# Altium integrated library Freescale Semiconductor ColdFire MCU.IntLib: 117 symbols (part 6 of 7)
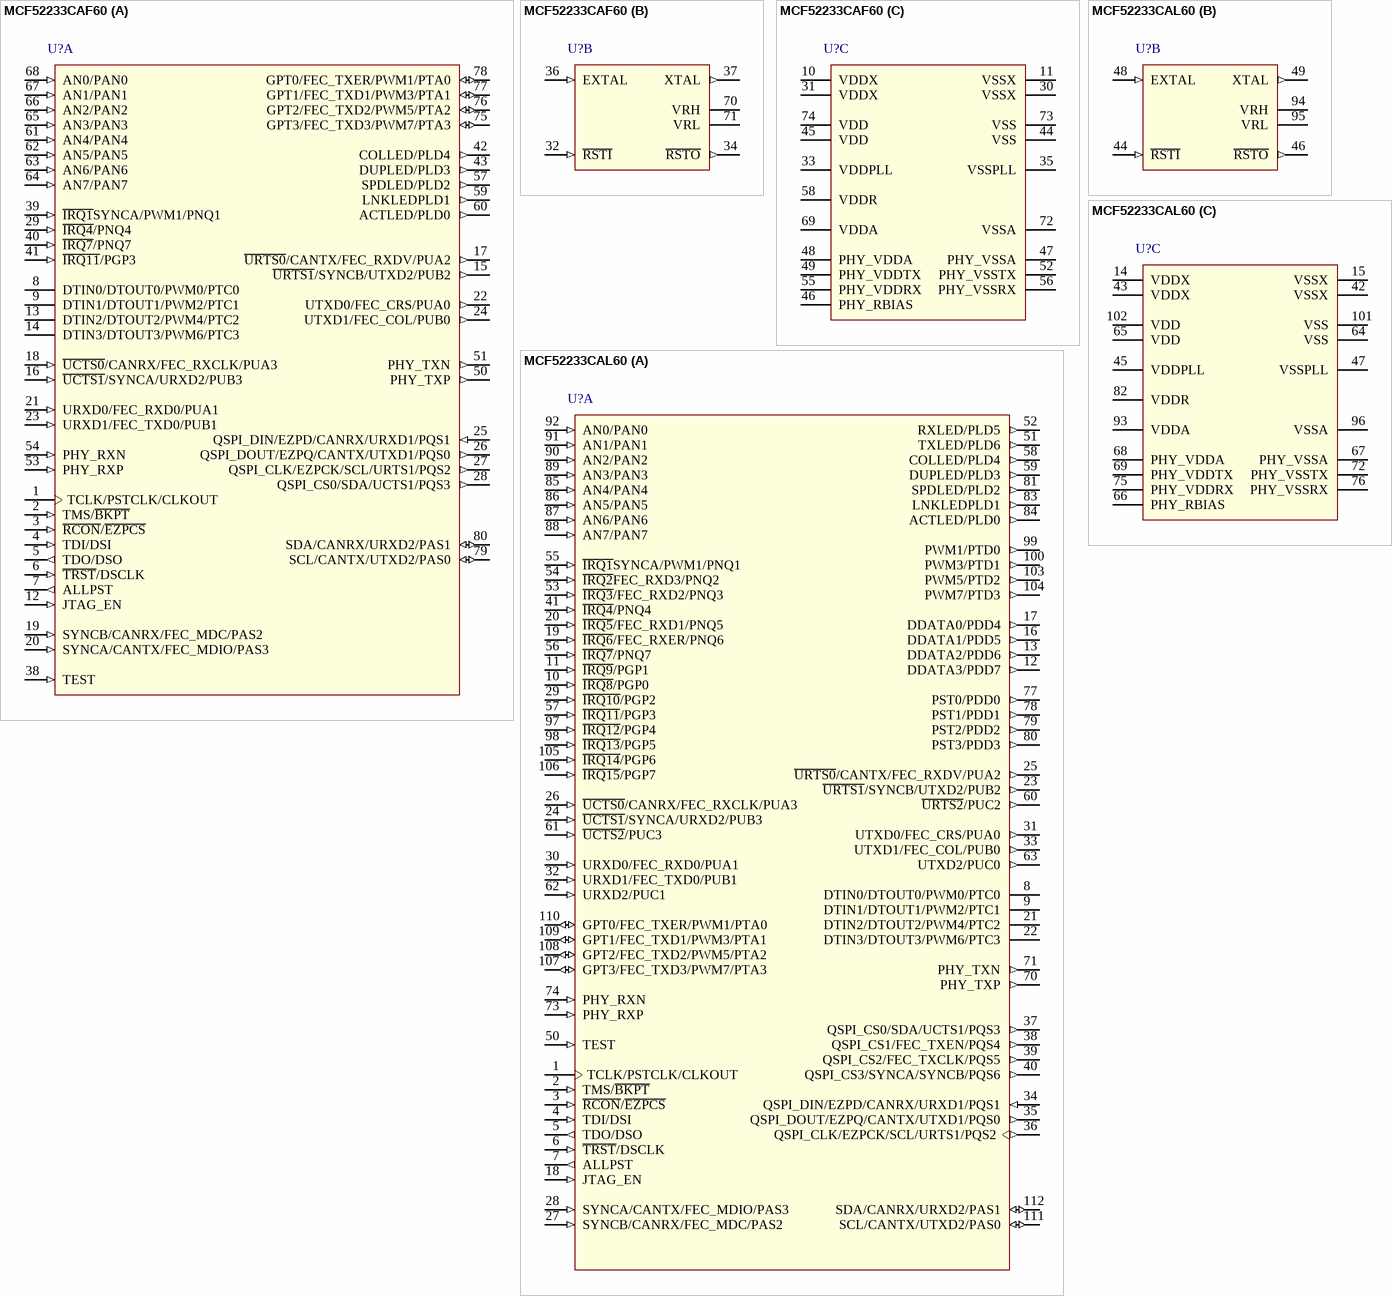
[diagram p35: symbols MCF52233CAF60 to MCF52233CAL60]

## MCF52233CAF60
designator U?
MCF52233 ColdFire V2 Microcontroller, 32-Bit, 256KB Flash, 32KB SRAM, 60MHz, -40°C to 85°C, 80-Pin LQFP; DatasheetVersion: rev10, Mar-2011; PackageVersion: 21/09/1995; PackageReference: 917A-02; PackageDescription: 80-Pin Thin Quad Flat Pack 0.65 mm Pitch; ComponentLink1Description: Manufacturer URL; ComponentLink1URL: http://www.freescale.com/; ComponentLink2Description: Datasheet; ComponentLink2URL: http://cache.freescale.com/files/32bit/doc/data_sheet/MCF52235DS.pdf?fpsp=1&WT_TYPE=Data%20Sheets&WT_VENDOR=FREESCALE&WT_FILE_FORMAT=pdf&WT_ASSET=Documentation
footprint 917A-02_N (Thin QFP, 80-Leads, Body 14 x 14mm, Pitch 0.65mm, IPC Medium Density)
footprint 917A-02_L (Thin QFP, 80-Leads, Body 14 x 14mm, Pitch 0.65mm, IPC High Density)
footprint 917A-02_M (Thin QFP, 80-Leads, Body 14 x 14mm, Pitch 0.65mm, IPC Low Density)
part A pins: 1 TCLK/PSTCLK/CLKOUT, 2 TMS/~{BKPT} (in), 3 ~{RCON}/~{EZPCS} (in), 4 TDI/DSI (in), 5 TDO/DSO (out), 6 ~{TRST}/DSCLK (in), 7 ALLPST (out), 8 DTIN0/DTOUT0/PWM0/PTC0, 9 DTIN1/DTOUT1/PWM2/PTC1, 12 JTAG_EN (in), 13 DTIN2/DTOUT2/PWM4/PTC2, 14 DTIN3/DTOUT3/PWM6/PTC3, 15 ~{URTS1}/SYNCB/UTXD2/PUB2 (out), 16 ~{UCTS1}/SYNCA/URXD2/PUB3 (in), 17 ~{URTS0}/CANTX/FEC_RXDV/PUA2 (out), 18 ~{UCTS0}/CANRX/FEC_RXCLK/PUA3 (in), 19 SYNCB/CANRX/FEC_MDC/PAS2 (in), 20 SYNCA/CANTX/FEC_MDIO/PAS3 (in), 21 URXD0/FEC_RXD0/PUA1 (in), 22 UTXD0/FEC_CRS/PUA0 (out), 23 URXD1/FEC_TXD0/PUB1 (in), 24 UTXD1/FEC_COL/PUB0 (out), 25 QSPI_DIN/EZPD/CANRX/URXD1/PQS1 (in), 26 QSPI_DOUT/EZPQ/CANTX/UTXD1/PQS0 (out), 27 QSPI_CLK/EZPCK/SCL/URTS1/PQS2 (out), 28 QSPI_CS0/SDA/UCTS1/PQS3 (out), 29 ~{IRQ4}/PNQ4 (in), 38 TEST (in), 39 ~{IRQ1}SYNCA/PWM1/PNQ1 (in), 40 ~{IRQ7}/PNQ7 (in), 41 ~{IRQ11}/PGP3 (in), 42 COLLED/PLD4 (out), 43 DUPLED/PLD3 (out), 50 PHY_TXP (out), 51 PHY_TXN (out), 53 PHY_RXP (in), 54 PHY_RXN (in), 57 SPDLED/PLD2 (out), 59 LNKLEDPLD1 (out), 60 ACTLED/PLD0 (out), 61 AN4/PAN4 (in), 62 AN5/PAN5 (in), 63 AN6/PAN6 (in), 64 AN7/PAN7 (in), 65 AN3/PAN3 (in), 66 AN2/PAN2 (in), 67 AN1/PAN1 (in), 68 AN0/PAN0 (in), 75 GPT3/FEC_TXD3/PWM7/PTA3 (io), 76 GPT2/FEC_TXD2/PWM5/PTA2 (io), 77 GPT1/FEC_TXD1/PWM3/PTA1 (io), 78 GPT0/FEC_TXER/PWM1/PTA0 (io), 79 SCL/CANTX/UTXD2/PAS0 (io), 80 SDA/CANRX/URXD2/PAS1 (io)
part B pins: 32 ~{RSTI} (in), 34 ~{RSTO} (out), 36 EXTAL (in), 37 XTAL (out), 70 VRH (power), 71 VRL (power)
part C pins: 10 VDDX (power), 11 VSSX (power), 30 VSSX (power), 31 VDDX (power), 33 VDDPLL (power), 35 VSSPLL (power), 44 VSS (power), 45 VDD (power), 46 PHY_RBIAS (power), 47 PHY_VSSA (power), 48 PHY_VDDA (power), 49 PHY_VDDTX (power), 52 PHY_VSSTX (power), 55 PHY_VDDRX (power), 56 PHY_VSSRX (power), 58 VDDR (power), 69 VDDA (power), 72 VSSA (power), 73 VSS (power), 74 VDD (power)

## MCF52233CAL60
designator U?
MCF52233 ColdFire V2 Microcontroller, 32-Bit, 256KB Flash, 32KB SRAM, 60MHz, -40°C to 85°C, 112-Pin LQFP; DatasheetVersion: rev10, Mar-2011; PackageVersion: revE, May-2005; PackageReference: 987-02; PackageDescription: 112-Pin Low Profile Quad Flat Pack 0.65 mm Pitch (987-02); Code_JEDEC: MS-026; ComponentLink1Description: Manufacturer URL; ComponentLink1URL: http://www.freescale.com/; ComponentLink2Description: Datasheet; ComponentLink2URL: http://cache.freescale.com/files/32bit/doc/data_sheet/MCF52235DS.pdf?fpsp=1&WT_TYPE=Data%20Sheets&WT_VENDOR=FREESCALE&WT_FILE_FORMAT=pdf&WT_ASSET=Documentation
footprint 987-02_N (Thin QFP, 112-Leads, Body 20 x 20mm, Pitch 0.65mm, IPC Medium Density)
footprint 987-02_L (Thin QFP, 112-Leads, Body 20 x 20mm, Pitch 0.65mm, IPC High Density)
footprint 987-02_M (Thin QFP, 112-Leads, Body 20 x 20mm, Pitch 0.65mm, IPC Low Density)
part A pins: 1 TCLK/PSTCLK/CLKOUT, 2 TMS/~{BKPT} (in), 3 ~{RCON}/~{EZPCS} (in), 4 TDI/DSI (in), 5 TDO/DSO (out), 6 ~{TRST}/DSCLK (in), 7 ALLPST (out), 8 DTIN0/DTOUT0/PWM0/PTC0, 9 DTIN1/DTOUT1/PWM2/PTC1, 10 ~{IRQ8}/PGP0 (in), 11 ~{IRQ9}/PGP1 (in), 12 DDATA3/PDD7 (out), 13 DDATA2/PDD6 (out), 16 DDATA1/PDD5 (out), 17 DDATA0/PDD4 (out), 18 JTAG_EN (in), 19 ~{IRQ6}/FEC_RXER/PNQ6 (in), 20 ~{IRQ5}/FEC_RXD1/PNQ5 (in), 21 DTIN2/DTOUT2/PWM4/PTC2, 22 DTIN3/DTOUT3/PWM6/PTC3, 23 ~{URTS1}/SYNCB/UTXD2/PUB2 (out), 24 ~{UCTS1}/SYNCA/URXD2/PUB3 (in), 25 ~{URTS0}/CANTX/FEC_RXDV/PUA2 (out), 26 ~{UCTS0}/CANRX/FEC_RXCLK/PUA3 (in), 27 SYNCB/CANRX/FEC_MDC/PAS2 (in), 28 SYNCA/CANTX/FEC_MDIO/PAS3 (in), 29 ~{IRQ10}/PGP2 (in), 30 URXD0/FEC_RXD0/PUA1 (in), 31 UTXD0/FEC_CRS/PUA0 (out), 32 URXD1/FEC_TXD0/PUB1 (in), 33 UTXD1/FEC_COL/PUB0 (out), 34 QSPI_DIN/EZPD/CANRX/URXD1/PQS1 (in), 35 QSPI_DOUT/EZPQ/CANTX/UTXD1/PQS0 (out), 36 QSPI_CLK/EZPCK/SCL/URTS1/PQS2 (out), 37 QSPI_CS0/SDA/UCTS1/PQS3 (out), 38 QSPI_CS1/FEC_TXEN/PQS4 (out), 39 QSPI_CS2/FEC_TXCLK/PQS5 (out), 40 QSPI_CS3/SYNCA/SYNCB/PQS6 (out), 41 ~{IRQ4}/PNQ4 (in), 50 TEST (in), 51 TXLED/PLD6 (out), 52 RXLED/PLD5 (out), 53 ~{IRQ3}/FEC_RXD2/PNQ3 (in), 54 ~{IRQ2}FEC_RXD3/PNQ2 (in), 55 ~{IRQ1}SYNCA/PWM1/PNQ1 (in), 56 ~{IRQ7}/PNQ7 (in), 57 ~{IRQ11}/PGP3 (in), 58 COLLED/PLD4 (out), 59 DUPLED/PLD3 (out), 60 ~{URTS2}/PUC2 (out), 61 ~{UCTS2}/PUC3 (in), 62 URXD2/PUC1 (in), 63 UTXD2/PUC0 (out), 70 PHY_TXP (out), 71 PHY_TXN (out), 73 PHY_RXP (in), 74 PHY_RXN (in), 77 PST0/PDD0 (out), 78 PST1/PDD1 (out), 79 PST2/PDD2 (out), 80 PST3/PDD3 (out), 81 SPDLED/PLD2 (out), 83 LNKLEDPLD1 (out), 84 ACTLED/PLD0 (out), 85 AN4/PAN4 (in), 86 AN5/PAN5 (in), 87 AN6/PAN6 (in), 88 AN7/PAN7 (in), 89 AN3/PAN3 (in), 90 AN2/PAN2 (in), 91 AN1/PAN1 (in), 92 AN0/PAN0 (in), 97 ~{IRQ12}/PGP4 (in), 98 ~{IRQ13}/PGP5 (in), 99 PWM1/PTD0 (out), 100 PWM3/PTD1 (out), 103 PWM5/PTD2 (out), 104 PWM7/PTD3 (out), 105 ~{IRQ14}/PGP6 (in), 106 ~{IRQ15}/PGP7 (in), 107 GPT3/FEC_TXD3/PWM7/PTA3 (io), 108 GPT2/FEC_TXD2/PWM5/PTA2 (io), 109 GPT1/FEC_TXD1/PWM3/PTA1 (io), 110 GPT0/FEC_TXER/PWM1/PTA0 (io), 111 SCL/CANTX/UTXD2/PAS0 (io), 112 SDA/CANRX/URXD2/PAS1 (io)
part B pins: 44 ~{RSTI} (in), 46 ~{RSTO} (out), 48 EXTAL (in), 49 XTAL (out), 94 VRH (power), 95 VRL (power)
part C pins: 14 VDDX (power), 15 VSSX (power), 42 VSSX (power), 43 VDDX (power), 45 VDDPLL (power), 47 VSSPLL (power), 64 VSS (power), 65 VDD (power), 66 PHY_RBIAS (power), 67 PHY_VSSA (power), 68 PHY_VDDA (power), 69 PHY_VDDTX (power), 72 PHY_VSSTX (power), 75 PHY_VDDRX (power), 76 PHY_VSSRX (power), 82 VDDR (power), 93 VDDA (power), 96 VSSA (power), 101 VSS (power), 102 VDD (power)

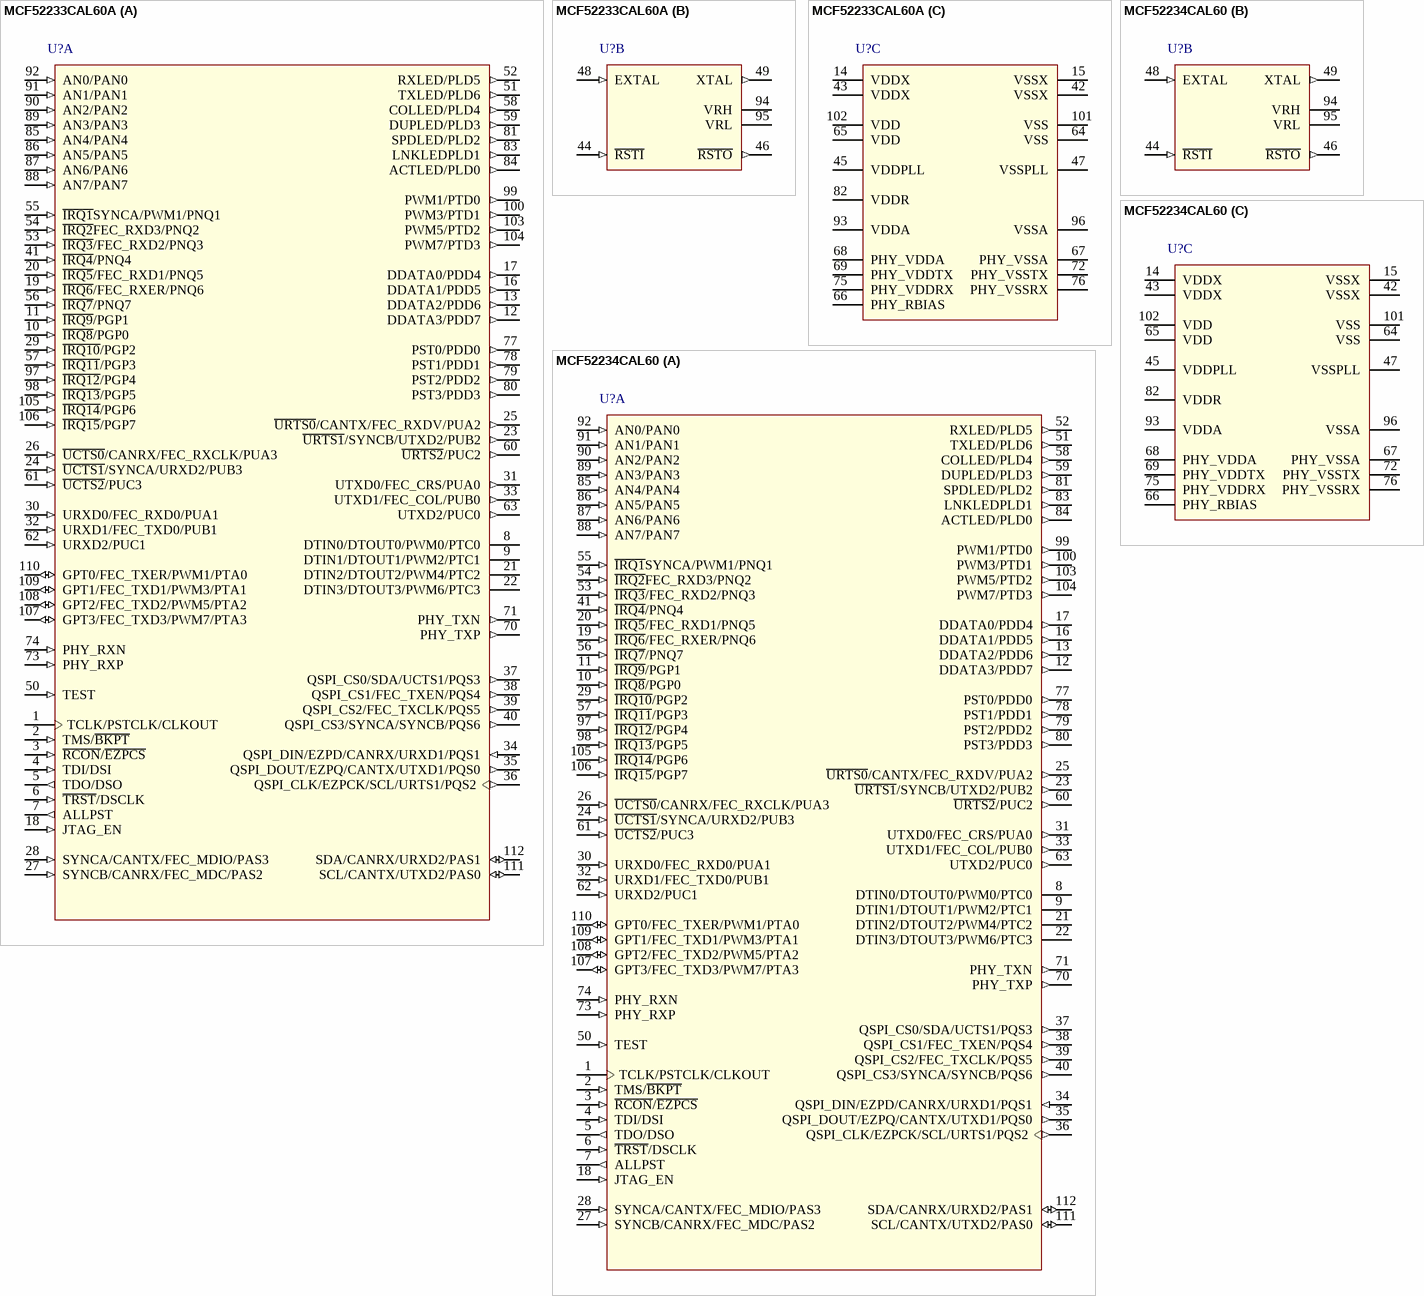
[diagram p24: symbols MCF52233CAL60A to MCF52234CAL60]

## MCF52233CAL60A
designator U?
MCF52233 ColdFire V2 Microcontroller, 32-Bit, 256KB Flash, 32KB SRAM, 60MHz, -40°C to 85°C, 112-Pin LQFP; DatasheetVersion: rev10, Mar-2011; PackageVersion: revE, May-2005; PackageReference: 987-02; PackageDescription: 112-Pin Low Profile Quad Flat Pack 0.65 mm Pitch (987-02); Code_JEDEC: MS-026; ComponentLink1Description: Manufacturer URL; ComponentLink1URL: http://www.freescale.com/; ComponentLink2Description: Datasheet; ComponentLink2URL: http://cache.freescale.com/files/32bit/doc/data_sheet/MCF52235DS.pdf?fpsp=1&WT_TYPE=Data%20Sheets&WT_VENDOR=FREESCALE&WT_FILE_FORMAT=pdf&WT_ASSET=Documentation
footprint 987-02_N (Thin QFP, 112-Leads, Body 20 x 20mm, Pitch 0.65mm, IPC Medium Density)
footprint 987-02_L (Thin QFP, 112-Leads, Body 20 x 20mm, Pitch 0.65mm, IPC High Density)
footprint 987-02_M (Thin QFP, 112-Leads, Body 20 x 20mm, Pitch 0.65mm, IPC Low Density)
part A pins: 1 TCLK/PSTCLK/CLKOUT, 2 TMS/~{BKPT} (in), 3 ~{RCON}/~{EZPCS} (in), 4 TDI/DSI (in), 5 TDO/DSO (out), 6 ~{TRST}/DSCLK (in), 7 ALLPST (out), 8 DTIN0/DTOUT0/PWM0/PTC0, 9 DTIN1/DTOUT1/PWM2/PTC1, 10 ~{IRQ8}/PGP0 (in), 11 ~{IRQ9}/PGP1 (in), 12 DDATA3/PDD7 (out), 13 DDATA2/PDD6 (out), 16 DDATA1/PDD5 (out), 17 DDATA0/PDD4 (out), 18 JTAG_EN (in), 19 ~{IRQ6}/FEC_RXER/PNQ6 (in), 20 ~{IRQ5}/FEC_RXD1/PNQ5 (in), 21 DTIN2/DTOUT2/PWM4/PTC2, 22 DTIN3/DTOUT3/PWM6/PTC3, 23 ~{URTS1}/SYNCB/UTXD2/PUB2 (out), 24 ~{UCTS1}/SYNCA/URXD2/PUB3 (in), 25 ~{URTS0}/CANTX/FEC_RXDV/PUA2 (out), 26 ~{UCTS0}/CANRX/FEC_RXCLK/PUA3 (in), 27 SYNCB/CANRX/FEC_MDC/PAS2 (in), 28 SYNCA/CANTX/FEC_MDIO/PAS3 (in), 29 ~{IRQ10}/PGP2 (in), 30 URXD0/FEC_RXD0/PUA1 (in), 31 UTXD0/FEC_CRS/PUA0 (out), 32 URXD1/FEC_TXD0/PUB1 (in), 33 UTXD1/FEC_COL/PUB0 (out), 34 QSPI_DIN/EZPD/CANRX/URXD1/PQS1 (in), 35 QSPI_DOUT/EZPQ/CANTX/UTXD1/PQS0 (out), 36 QSPI_CLK/EZPCK/SCL/URTS1/PQS2 (out), 37 QSPI_CS0/SDA/UCTS1/PQS3 (out), 38 QSPI_CS1/FEC_TXEN/PQS4 (out), 39 QSPI_CS2/FEC_TXCLK/PQS5 (out), 40 QSPI_CS3/SYNCA/SYNCB/PQS6 (out), 41 ~{IRQ4}/PNQ4 (in), 50 TEST (in), 51 TXLED/PLD6 (out), 52 RXLED/PLD5 (out), 53 ~{IRQ3}/FEC_RXD2/PNQ3 (in), 54 ~{IRQ2}FEC_RXD3/PNQ2 (in), 55 ~{IRQ1}SYNCA/PWM1/PNQ1 (in), 56 ~{IRQ7}/PNQ7 (in), 57 ~{IRQ11}/PGP3 (in), 58 COLLED/PLD4 (out), 59 DUPLED/PLD3 (out), 60 ~{URTS2}/PUC2 (out), 61 ~{UCTS2}/PUC3 (in), 62 URXD2/PUC1 (in), 63 UTXD2/PUC0 (out), 70 PHY_TXP (out), 71 PHY_TXN (out), 73 PHY_RXP (in), 74 PHY_RXN (in), 77 PST0/PDD0 (out), 78 PST1/PDD1 (out), 79 PST2/PDD2 (out), 80 PST3/PDD3 (out), 81 SPDLED/PLD2 (out), 83 LNKLEDPLD1 (out), 84 ACTLED/PLD0 (out), 85 AN4/PAN4 (in), 86 AN5/PAN5 (in), 87 AN6/PAN6 (in), 88 AN7/PAN7 (in), 89 AN3/PAN3 (in), 90 AN2/PAN2 (in), 91 AN1/PAN1 (in), 92 AN0/PAN0 (in), 97 ~{IRQ12}/PGP4 (in), 98 ~{IRQ13}/PGP5 (in), 99 PWM1/PTD0 (out), 100 PWM3/PTD1 (out), 103 PWM5/PTD2 (out), 104 PWM7/PTD3 (out), 105 ~{IRQ14}/PGP6 (in), 106 ~{IRQ15}/PGP7 (in), 107 GPT3/FEC_TXD3/PWM7/PTA3 (io), 108 GPT2/FEC_TXD2/PWM5/PTA2 (io), 109 GPT1/FEC_TXD1/PWM3/PTA1 (io), 110 GPT0/FEC_TXER/PWM1/PTA0 (io), 111 SCL/CANTX/UTXD2/PAS0 (io), 112 SDA/CANRX/URXD2/PAS1 (io)
part B pins: 44 ~{RSTI} (in), 46 ~{RSTO} (out), 48 EXTAL (in), 49 XTAL (out), 94 VRH (power), 95 VRL (power)
part C pins: 14 VDDX (power), 15 VSSX (power), 42 VSSX (power), 43 VDDX (power), 45 VDDPLL (power), 47 VSSPLL (power), 64 VSS (power), 65 VDD (power), 66 PHY_RBIAS (power), 67 PHY_VSSA (power), 68 PHY_VDDA (power), 69 PHY_VDDTX (power), 72 PHY_VSSTX (power), 75 PHY_VDDRX (power), 76 PHY_VSSRX (power), 82 VDDR (power), 93 VDDA (power), 96 VSSA (power), 101 VSS (power), 102 VDD (power)

## MCF52234CAL60
designator U?
MCF52234 ColdFire V2 Microcontroller, FlexCAN, 32-Bit, 256KB Flash, 32KB SRAM, 60MHz, -40°C to 85°C, 112-Pin LQFP; DatasheetVersion: rev10, Mar-2011; PackageVersion: revE, May-2005; PackageReference: 987-02; PackageDescription: 112-Pin Low Profile Quad Flat Pack 0.65 mm Pitch (987-02); Code_JEDEC: MS-026; ComponentLink1Description: Manufacturer URL; ComponentLink1URL: http://www.freescale.com/; ComponentLink2Description: Datasheet; ComponentLink2URL: http://cache.freescale.com/files/32bit/doc/data_sheet/MCF52235DS.pdf?fpsp=1&WT_TYPE=Data%20Sheets&WT_VENDOR=FREESCALE&WT_FILE_FORMAT=pdf&WT_ASSET=Documentation
footprint 987-02_N (Thin QFP, 112-Leads, Body 20 x 20mm, Pitch 0.65mm, IPC Medium Density)
footprint 987-02_L (Thin QFP, 112-Leads, Body 20 x 20mm, Pitch 0.65mm, IPC High Density)
footprint 987-02_M (Thin QFP, 112-Leads, Body 20 x 20mm, Pitch 0.65mm, IPC Low Density)
part A pins: 1 TCLK/PSTCLK/CLKOUT, 2 TMS/~{BKPT} (in), 3 ~{RCON}/~{EZPCS} (in), 4 TDI/DSI (in), 5 TDO/DSO (out), 6 ~{TRST}/DSCLK (in), 7 ALLPST (out), 8 DTIN0/DTOUT0/PWM0/PTC0, 9 DTIN1/DTOUT1/PWM2/PTC1, 10 ~{IRQ8}/PGP0 (in), 11 ~{IRQ9}/PGP1 (in), 12 DDATA3/PDD7 (out), 13 DDATA2/PDD6 (out), 16 DDATA1/PDD5 (out), 17 DDATA0/PDD4 (out), 18 JTAG_EN (in), 19 ~{IRQ6}/FEC_RXER/PNQ6 (in), 20 ~{IRQ5}/FEC_RXD1/PNQ5 (in), 21 DTIN2/DTOUT2/PWM4/PTC2, 22 DTIN3/DTOUT3/PWM6/PTC3, 23 ~{URTS1}/SYNCB/UTXD2/PUB2 (out), 24 ~{UCTS1}/SYNCA/URXD2/PUB3 (in), 25 ~{URTS0}/CANTX/FEC_RXDV/PUA2 (out), 26 ~{UCTS0}/CANRX/FEC_RXCLK/PUA3 (in), 27 SYNCB/CANRX/FEC_MDC/PAS2 (in), 28 SYNCA/CANTX/FEC_MDIO/PAS3 (in), 29 ~{IRQ10}/PGP2 (in), 30 URXD0/FEC_RXD0/PUA1 (in), 31 UTXD0/FEC_CRS/PUA0 (out), 32 URXD1/FEC_TXD0/PUB1 (in), 33 UTXD1/FEC_COL/PUB0 (out), 34 QSPI_DIN/EZPD/CANRX/URXD1/PQS1 (in), 35 QSPI_DOUT/EZPQ/CANTX/UTXD1/PQS0 (out), 36 QSPI_CLK/EZPCK/SCL/URTS1/PQS2 (out), 37 QSPI_CS0/SDA/UCTS1/PQS3 (out), 38 QSPI_CS1/FEC_TXEN/PQS4 (out), 39 QSPI_CS2/FEC_TXCLK/PQS5 (out), 40 QSPI_CS3/SYNCA/SYNCB/PQS6 (out), 41 ~{IRQ4}/PNQ4 (in), 50 TEST (in), 51 TXLED/PLD6 (out), 52 RXLED/PLD5 (out), 53 ~{IRQ3}/FEC_RXD2/PNQ3 (in), 54 ~{IRQ2}FEC_RXD3/PNQ2 (in), 55 ~{IRQ1}SYNCA/PWM1/PNQ1 (in), 56 ~{IRQ7}/PNQ7 (in), 57 ~{IRQ11}/PGP3 (in), 58 COLLED/PLD4 (out), 59 DUPLED/PLD3 (out), 60 ~{URTS2}/PUC2 (out), 61 ~{UCTS2}/PUC3 (in), 62 URXD2/PUC1 (in), 63 UTXD2/PUC0 (out), 70 PHY_TXP (out), 71 PHY_TXN (out), 73 PHY_RXP (in), 74 PHY_RXN (in), 77 PST0/PDD0 (out), 78 PST1/PDD1 (out), 79 PST2/PDD2 (out), 80 PST3/PDD3 (out), 81 SPDLED/PLD2 (out), 83 LNKLEDPLD1 (out), 84 ACTLED/PLD0 (out), 85 AN4/PAN4 (in), 86 AN5/PAN5 (in), 87 AN6/PAN6 (in), 88 AN7/PAN7 (in), 89 AN3/PAN3 (in), 90 AN2/PAN2 (in), 91 AN1/PAN1 (in), 92 AN0/PAN0 (in), 97 ~{IRQ12}/PGP4 (in), 98 ~{IRQ13}/PGP5 (in), 99 PWM1/PTD0 (out), 100 PWM3/PTD1 (out), 103 PWM5/PTD2 (out), 104 PWM7/PTD3 (out), 105 ~{IRQ14}/PGP6 (in), 106 ~{IRQ15}/PGP7 (in), 107 GPT3/FEC_TXD3/PWM7/PTA3 (io), 108 GPT2/FEC_TXD2/PWM5/PTA2 (io), 109 GPT1/FEC_TXD1/PWM3/PTA1 (io), 110 GPT0/FEC_TXER/PWM1/PTA0 (io), 111 SCL/CANTX/UTXD2/PAS0 (io), 112 SDA/CANRX/URXD2/PAS1 (io)
part B pins: 44 ~{RSTI} (in), 46 ~{RSTO} (out), 48 EXTAL (in), 49 XTAL (out), 94 VRH (power), 95 VRL (power)
part C pins: 14 VDDX (power), 15 VSSX (power), 42 VSSX (power), 43 VDDX (power), 45 VDDPLL (power), 47 VSSPLL (power), 64 VSS (power), 65 VDD (power), 66 PHY_RBIAS (power), 67 PHY_VSSA (power), 68 PHY_VDDA (power), 69 PHY_VDDTX (power), 72 PHY_VSSTX (power), 75 PHY_VDDRX (power), 76 PHY_VSSRX (power), 82 VDDR (power), 93 VDDA (power), 96 VSSA (power), 101 VSS (power), 102 VDD (power)

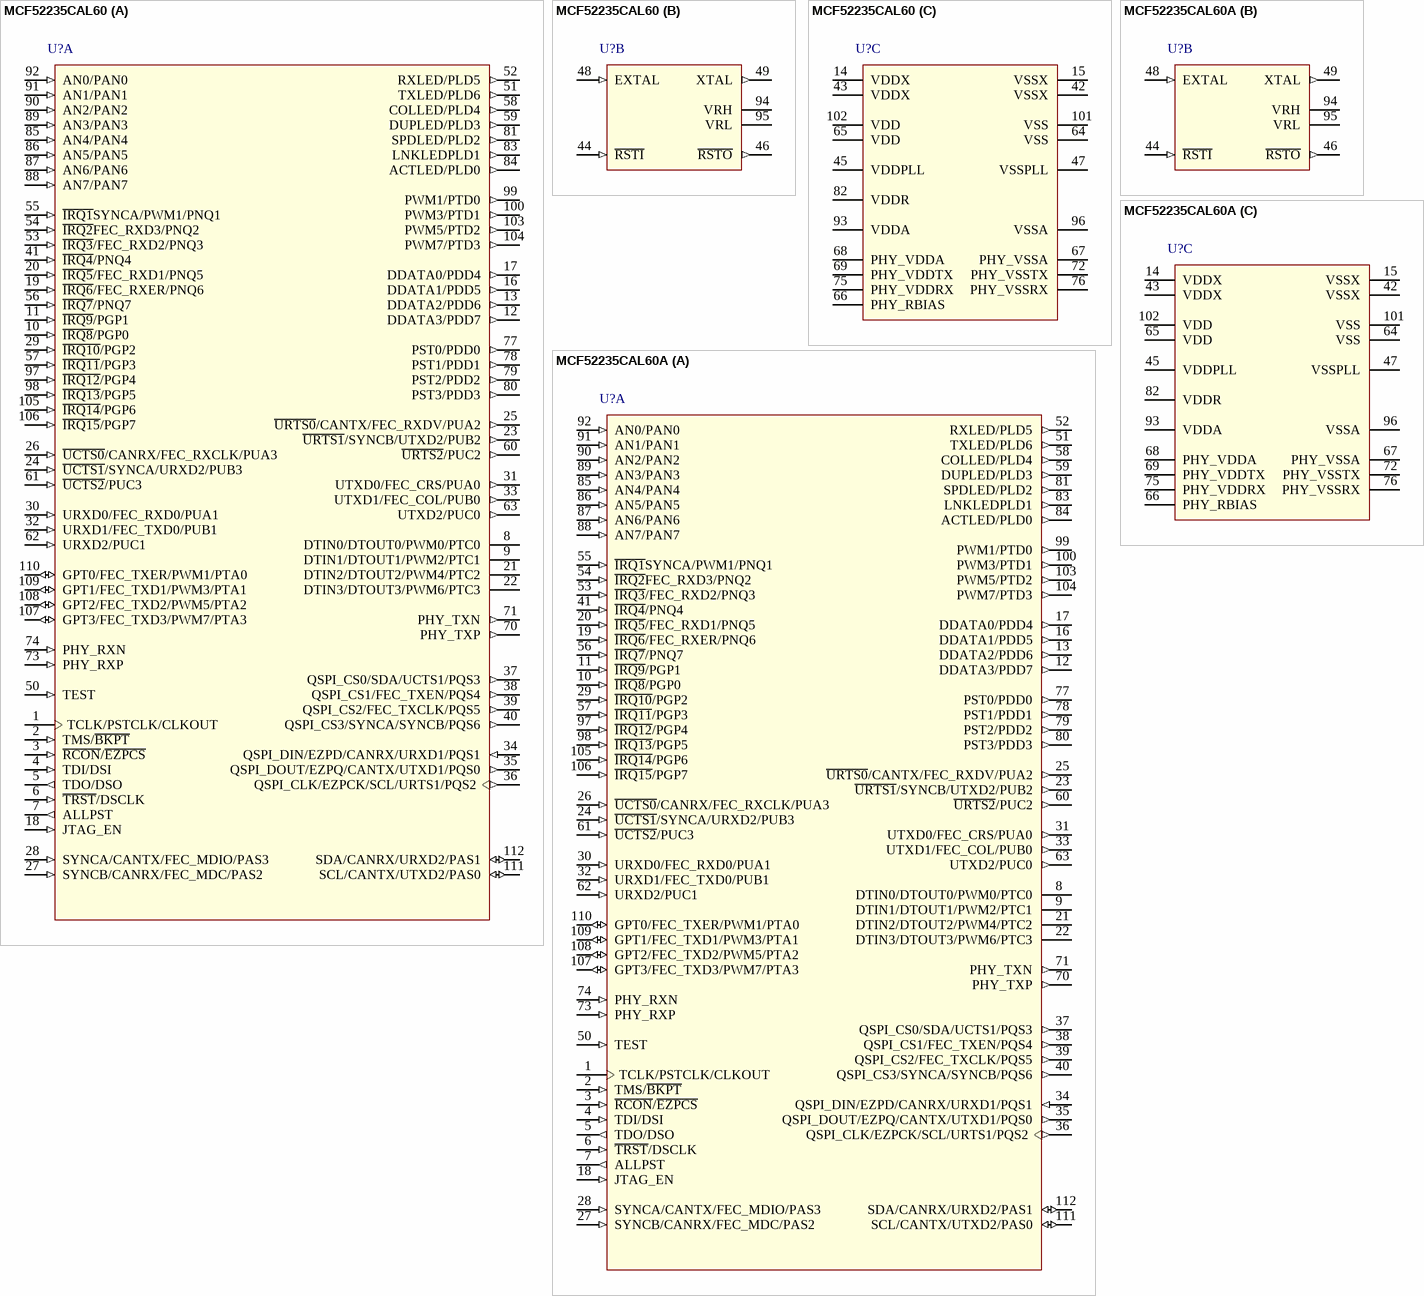
[diagram p25: symbols MCF52235CAL60 to MCF52235CAL60A]

## MCF52235CAL60
designator U?
MCF52235 ColdFire V2 Microcontroller, FlexCAN, CAU, RNGA, 32-Bit, 256KB Flash, 32KB SRAM, 60MHz, -40°C to 85°C, 112-Pin LQFP; DatasheetVersion: rev10, Mar-2011; PackageVersion: revE, May-2005; PackageReference: 987-02; PackageDescription: 112-Pin Low Profile Quad Flat Pack 0.65 mm Pitch (987-02); Code_JEDEC: MS-026; ComponentLink1Description: Manufacturer URL; ComponentLink1URL: http://www.freescale.com/; ComponentLink2Description: Datasheet; ComponentLink2URL: http://cache.freescale.com/files/32bit/doc/data_sheet/MCF52235DS.pdf?fpsp=1&WT_TYPE=Data%20Sheets&WT_VENDOR=FREESCALE&WT_FILE_FORMAT=pdf&WT_ASSET=Documentation
footprint 987-02_N (Thin QFP, 112-Leads, Body 20 x 20mm, Pitch 0.65mm, IPC Medium Density)
footprint 987-02_L (Thin QFP, 112-Leads, Body 20 x 20mm, Pitch 0.65mm, IPC High Density)
footprint 987-02_M (Thin QFP, 112-Leads, Body 20 x 20mm, Pitch 0.65mm, IPC Low Density)
part A pins: 1 TCLK/PSTCLK/CLKOUT, 2 TMS/~{BKPT} (in), 3 ~{RCON}/~{EZPCS} (in), 4 TDI/DSI (in), 5 TDO/DSO (out), 6 ~{TRST}/DSCLK (in), 7 ALLPST (out), 8 DTIN0/DTOUT0/PWM0/PTC0, 9 DTIN1/DTOUT1/PWM2/PTC1, 10 ~{IRQ8}/PGP0 (in), 11 ~{IRQ9}/PGP1 (in), 12 DDATA3/PDD7 (out), 13 DDATA2/PDD6 (out), 16 DDATA1/PDD5 (out), 17 DDATA0/PDD4 (out), 18 JTAG_EN (in), 19 ~{IRQ6}/FEC_RXER/PNQ6 (in), 20 ~{IRQ5}/FEC_RXD1/PNQ5 (in), 21 DTIN2/DTOUT2/PWM4/PTC2, 22 DTIN3/DTOUT3/PWM6/PTC3, 23 ~{URTS1}/SYNCB/UTXD2/PUB2 (out), 24 ~{UCTS1}/SYNCA/URXD2/PUB3 (in), 25 ~{URTS0}/CANTX/FEC_RXDV/PUA2 (out), 26 ~{UCTS0}/CANRX/FEC_RXCLK/PUA3 (in), 27 SYNCB/CANRX/FEC_MDC/PAS2 (in), 28 SYNCA/CANTX/FEC_MDIO/PAS3 (in), 29 ~{IRQ10}/PGP2 (in), 30 URXD0/FEC_RXD0/PUA1 (in), 31 UTXD0/FEC_CRS/PUA0 (out), 32 URXD1/FEC_TXD0/PUB1 (in), 33 UTXD1/FEC_COL/PUB0 (out), 34 QSPI_DIN/EZPD/CANRX/URXD1/PQS1 (in), 35 QSPI_DOUT/EZPQ/CANTX/UTXD1/PQS0 (out), 36 QSPI_CLK/EZPCK/SCL/URTS1/PQS2 (out), 37 QSPI_CS0/SDA/UCTS1/PQS3 (out), 38 QSPI_CS1/FEC_TXEN/PQS4 (out), 39 QSPI_CS2/FEC_TXCLK/PQS5 (out), 40 QSPI_CS3/SYNCA/SYNCB/PQS6 (out), 41 ~{IRQ4}/PNQ4 (in), 50 TEST (in), 51 TXLED/PLD6 (out), 52 RXLED/PLD5 (out), 53 ~{IRQ3}/FEC_RXD2/PNQ3 (in), 54 ~{IRQ2}FEC_RXD3/PNQ2 (in), 55 ~{IRQ1}SYNCA/PWM1/PNQ1 (in), 56 ~{IRQ7}/PNQ7 (in), 57 ~{IRQ11}/PGP3 (in), 58 COLLED/PLD4 (out), 59 DUPLED/PLD3 (out), 60 ~{URTS2}/PUC2 (out), 61 ~{UCTS2}/PUC3 (in), 62 URXD2/PUC1 (in), 63 UTXD2/PUC0 (out), 70 PHY_TXP (out), 71 PHY_TXN (out), 73 PHY_RXP (in), 74 PHY_RXN (in), 77 PST0/PDD0 (out), 78 PST1/PDD1 (out), 79 PST2/PDD2 (out), 80 PST3/PDD3 (out), 81 SPDLED/PLD2 (out), 83 LNKLEDPLD1 (out), 84 ACTLED/PLD0 (out), 85 AN4/PAN4 (in), 86 AN5/PAN5 (in), 87 AN6/PAN6 (in), 88 AN7/PAN7 (in), 89 AN3/PAN3 (in), 90 AN2/PAN2 (in), 91 AN1/PAN1 (in), 92 AN0/PAN0 (in), 97 ~{IRQ12}/PGP4 (in), 98 ~{IRQ13}/PGP5 (in), 99 PWM1/PTD0 (out), 100 PWM3/PTD1 (out), 103 PWM5/PTD2 (out), 104 PWM7/PTD3 (out), 105 ~{IRQ14}/PGP6 (in), 106 ~{IRQ15}/PGP7 (in), 107 GPT3/FEC_TXD3/PWM7/PTA3 (io), 108 GPT2/FEC_TXD2/PWM5/PTA2 (io), 109 GPT1/FEC_TXD1/PWM3/PTA1 (io), 110 GPT0/FEC_TXER/PWM1/PTA0 (io), 111 SCL/CANTX/UTXD2/PAS0 (io), 112 SDA/CANRX/URXD2/PAS1 (io)
part B pins: 44 ~{RSTI} (in), 46 ~{RSTO} (out), 48 EXTAL (in), 49 XTAL (out), 94 VRH (power), 95 VRL (power)
part C pins: 14 VDDX (power), 15 VSSX (power), 42 VSSX (power), 43 VDDX (power), 45 VDDPLL (power), 47 VSSPLL (power), 64 VSS (power), 65 VDD (power), 66 PHY_RBIAS (power), 67 PHY_VSSA (power), 68 PHY_VDDA (power), 69 PHY_VDDTX (power), 72 PHY_VSSTX (power), 75 PHY_VDDRX (power), 76 PHY_VSSRX (power), 82 VDDR (power), 93 VDDA (power), 96 VSSA (power), 101 VSS (power), 102 VDD (power)

## MCF52235CAL60A
designator U?
MCF52235 ColdFire V2 Microcontroller, FlexCAN, CAU, RNGA, 32-Bit, 256KB Flash, 32KB SRAM, 60MHz, -40°C to 85°C, 112-Pin LQFP; DatasheetVersion: rev10, Mar-2011; PackageVersion: revE, May-2005; PackageReference: 987-02; PackageDescription: 112-Pin Low Profile Quad Flat Pack 0.65 mm Pitch (987-02); Code_JEDEC: MS-026; ComponentLink1Description: Manufacturer URL; ComponentLink1URL: http://www.freescale.com/; ComponentLink2Description: Datasheet; ComponentLink2URL: http://cache.freescale.com/files/32bit/doc/data_sheet/MCF52235DS.pdf?fpsp=1&WT_TYPE=Data%20Sheets&WT_VENDOR=FREESCALE&WT_FILE_FORMAT=pdf&WT_ASSET=Documentation
footprint 987-02_N (Thin QFP, 112-Leads, Body 20 x 20mm, Pitch 0.65mm, IPC Medium Density)
footprint 987-02_L (Thin QFP, 112-Leads, Body 20 x 20mm, Pitch 0.65mm, IPC High Density)
footprint 987-02_M (Thin QFP, 112-Leads, Body 20 x 20mm, Pitch 0.65mm, IPC Low Density)
part A pins: 1 TCLK/PSTCLK/CLKOUT, 2 TMS/~{BKPT} (in), 3 ~{RCON}/~{EZPCS} (in), 4 TDI/DSI (in), 5 TDO/DSO (out), 6 ~{TRST}/DSCLK (in), 7 ALLPST (out), 8 DTIN0/DTOUT0/PWM0/PTC0, 9 DTIN1/DTOUT1/PWM2/PTC1, 10 ~{IRQ8}/PGP0 (in), 11 ~{IRQ9}/PGP1 (in), 12 DDATA3/PDD7 (out), 13 DDATA2/PDD6 (out), 16 DDATA1/PDD5 (out), 17 DDATA0/PDD4 (out), 18 JTAG_EN (in), 19 ~{IRQ6}/FEC_RXER/PNQ6 (in), 20 ~{IRQ5}/FEC_RXD1/PNQ5 (in), 21 DTIN2/DTOUT2/PWM4/PTC2, 22 DTIN3/DTOUT3/PWM6/PTC3, 23 ~{URTS1}/SYNCB/UTXD2/PUB2 (out), 24 ~{UCTS1}/SYNCA/URXD2/PUB3 (in), 25 ~{URTS0}/CANTX/FEC_RXDV/PUA2 (out), 26 ~{UCTS0}/CANRX/FEC_RXCLK/PUA3 (in), 27 SYNCB/CANRX/FEC_MDC/PAS2 (in), 28 SYNCA/CANTX/FEC_MDIO/PAS3 (in), 29 ~{IRQ10}/PGP2 (in), 30 URXD0/FEC_RXD0/PUA1 (in), 31 UTXD0/FEC_CRS/PUA0 (out), 32 URXD1/FEC_TXD0/PUB1 (in), 33 UTXD1/FEC_COL/PUB0 (out), 34 QSPI_DIN/EZPD/CANRX/URXD1/PQS1 (in), 35 QSPI_DOUT/EZPQ/CANTX/UTXD1/PQS0 (out), 36 QSPI_CLK/EZPCK/SCL/URTS1/PQS2 (out), 37 QSPI_CS0/SDA/UCTS1/PQS3 (out), 38 QSPI_CS1/FEC_TXEN/PQS4 (out), 39 QSPI_CS2/FEC_TXCLK/PQS5 (out), 40 QSPI_CS3/SYNCA/SYNCB/PQS6 (out), 41 ~{IRQ4}/PNQ4 (in), 50 TEST (in), 51 TXLED/PLD6 (out), 52 RXLED/PLD5 (out), 53 ~{IRQ3}/FEC_RXD2/PNQ3 (in), 54 ~{IRQ2}FEC_RXD3/PNQ2 (in), 55 ~{IRQ1}SYNCA/PWM1/PNQ1 (in), 56 ~{IRQ7}/PNQ7 (in), 57 ~{IRQ11}/PGP3 (in), 58 COLLED/PLD4 (out), 59 DUPLED/PLD3 (out), 60 ~{URTS2}/PUC2 (out), 61 ~{UCTS2}/PUC3 (in), 62 URXD2/PUC1 (in), 63 UTXD2/PUC0 (out), 70 PHY_TXP (out), 71 PHY_TXN (out), 73 PHY_RXP (in), 74 PHY_RXN (in), 77 PST0/PDD0 (out), 78 PST1/PDD1 (out), 79 PST2/PDD2 (out), 80 PST3/PDD3 (out), 81 SPDLED/PLD2 (out), 83 LNKLEDPLD1 (out), 84 ACTLED/PLD0 (out), 85 AN4/PAN4 (in), 86 AN5/PAN5 (in), 87 AN6/PAN6 (in), 88 AN7/PAN7 (in), 89 AN3/PAN3 (in), 90 AN2/PAN2 (in), 91 AN1/PAN1 (in), 92 AN0/PAN0 (in), 97 ~{IRQ12}/PGP4 (in), 98 ~{IRQ13}/PGP5 (in), 99 PWM1/PTD0 (out), 100 PWM3/PTD1 (out), 103 PWM5/PTD2 (out), 104 PWM7/PTD3 (out), 105 ~{IRQ14}/PGP6 (in), 106 ~{IRQ15}/PGP7 (in), 107 GPT3/FEC_TXD3/PWM7/PTA3 (io), 108 GPT2/FEC_TXD2/PWM5/PTA2 (io), 109 GPT1/FEC_TXD1/PWM3/PTA1 (io), 110 GPT0/FEC_TXER/PWM1/PTA0 (io), 111 SCL/CANTX/UTXD2/PAS0 (io), 112 SDA/CANRX/URXD2/PAS1 (io)
part B pins: 44 ~{RSTI} (in), 46 ~{RSTO} (out), 48 EXTAL (in), 49 XTAL (out), 94 VRH (power), 95 VRL (power)
part C pins: 14 VDDX (power), 15 VSSX (power), 42 VSSX (power), 43 VDDX (power), 45 VDDPLL (power), 47 VSSPLL (power), 64 VSS (power), 65 VDD (power), 66 PHY_RBIAS (power), 67 PHY_VSSA (power), 68 PHY_VDDA (power), 69 PHY_VDDTX (power), 72 PHY_VSSTX (power), 75 PHY_VDDRX (power), 76 PHY_VSSRX (power), 82 VDDR (power), 93 VDDA (power), 96 VSSA (power), 101 VSS (power), 102 VDD (power)

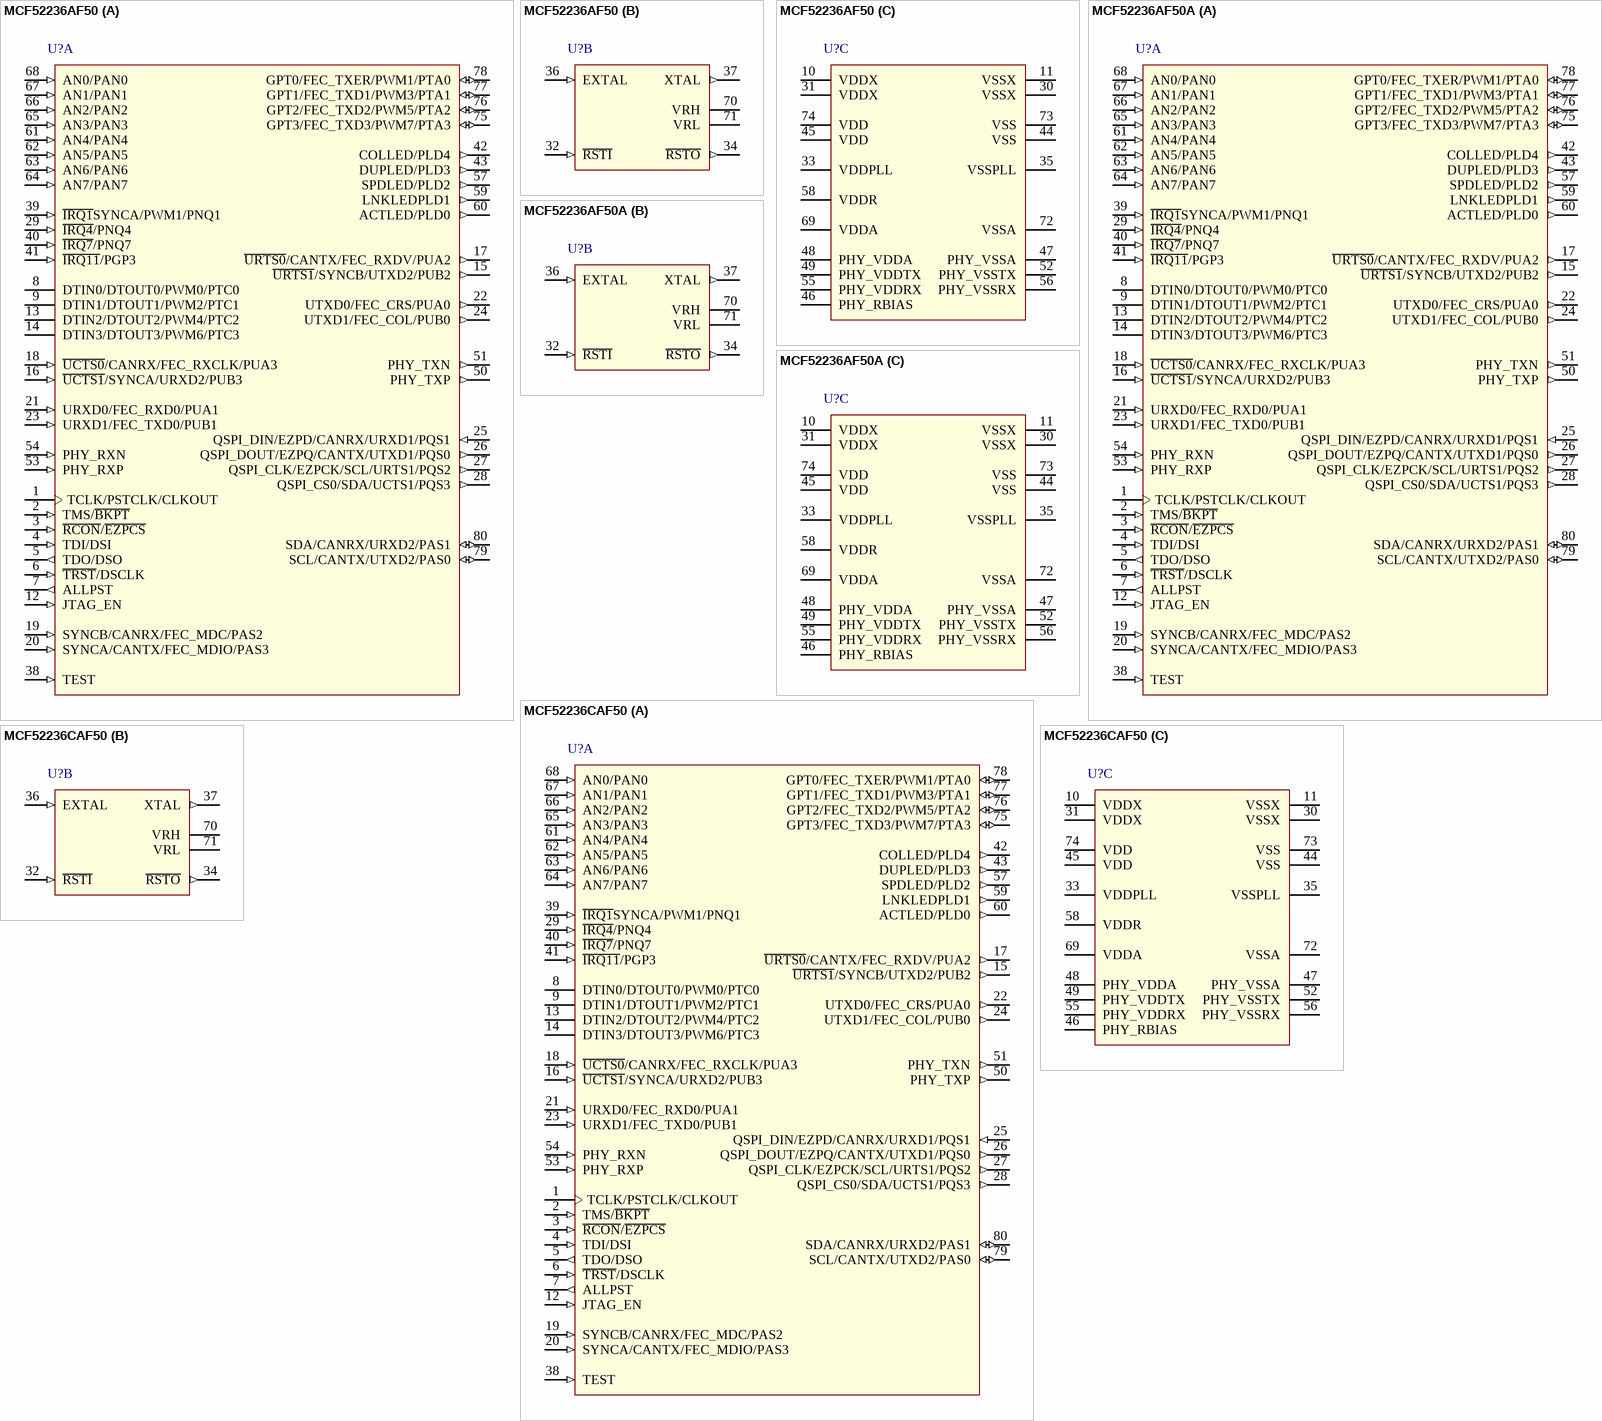
[diagram p26: symbols MCF52236AF50 to MCF52236CAF50]

## MCF52236AF50
designator U?
MCF52236 ColdFire V2 Microcontroller, 32-Bit, 256KB Flash, 32KB SRAM, 50MHz, 0°C to 70°C, 80-Pin LQFP; DatasheetVersion: rev10, Mar-2011; PackageVersion: 21/09/1995; PackageReference: 917A-02; PackageDescription: 80-Pin Thin Quad Flat Pack 0.65 mm Pitch; ComponentLink1Description: Manufacturer URL; ComponentLink1URL: http://www.freescale.com/; ComponentLink2Description: Datasheet; ComponentLink2URL: http://cache.freescale.com/files/32bit/doc/data_sheet/MCF52235DS.pdf?fpsp=1&WT_TYPE=Data%20Sheets&WT_VENDOR=FREESCALE&WT_FILE_FORMAT=pdf&WT_ASSET=Documentation
footprint 917A-02_N (Thin QFP, 80-Leads, Body 14 x 14mm, Pitch 0.65mm, IPC Medium Density)
footprint 917A-02_L (Thin QFP, 80-Leads, Body 14 x 14mm, Pitch 0.65mm, IPC High Density)
footprint 917A-02_M (Thin QFP, 80-Leads, Body 14 x 14mm, Pitch 0.65mm, IPC Low Density)
part A pins: 1 TCLK/PSTCLK/CLKOUT, 2 TMS/~{BKPT} (in), 3 ~{RCON}/~{EZPCS} (in), 4 TDI/DSI (in), 5 TDO/DSO (out), 6 ~{TRST}/DSCLK (in), 7 ALLPST (out), 8 DTIN0/DTOUT0/PWM0/PTC0, 9 DTIN1/DTOUT1/PWM2/PTC1, 12 JTAG_EN (in), 13 DTIN2/DTOUT2/PWM4/PTC2, 14 DTIN3/DTOUT3/PWM6/PTC3, 15 ~{URTS1}/SYNCB/UTXD2/PUB2 (out), 16 ~{UCTS1}/SYNCA/URXD2/PUB3 (in), 17 ~{URTS0}/CANTX/FEC_RXDV/PUA2 (out), 18 ~{UCTS0}/CANRX/FEC_RXCLK/PUA3 (in), 19 SYNCB/CANRX/FEC_MDC/PAS2 (in), 20 SYNCA/CANTX/FEC_MDIO/PAS3 (in), 21 URXD0/FEC_RXD0/PUA1 (in), 22 UTXD0/FEC_CRS/PUA0 (out), 23 URXD1/FEC_TXD0/PUB1 (in), 24 UTXD1/FEC_COL/PUB0 (out), 25 QSPI_DIN/EZPD/CANRX/URXD1/PQS1 (in), 26 QSPI_DOUT/EZPQ/CANTX/UTXD1/PQS0 (out), 27 QSPI_CLK/EZPCK/SCL/URTS1/PQS2 (out), 28 QSPI_CS0/SDA/UCTS1/PQS3 (out), 29 ~{IRQ4}/PNQ4 (in), 38 TEST (in), 39 ~{IRQ1}SYNCA/PWM1/PNQ1 (in), 40 ~{IRQ7}/PNQ7 (in), 41 ~{IRQ11}/PGP3 (in), 42 COLLED/PLD4 (out), 43 DUPLED/PLD3 (out), 50 PHY_TXP (out), 51 PHY_TXN (out), 53 PHY_RXP (in), 54 PHY_RXN (in), 57 SPDLED/PLD2 (out), 59 LNKLEDPLD1 (out), 60 ACTLED/PLD0 (out), 61 AN4/PAN4 (in), 62 AN5/PAN5 (in), 63 AN6/PAN6 (in), 64 AN7/PAN7 (in), 65 AN3/PAN3 (in), 66 AN2/PAN2 (in), 67 AN1/PAN1 (in), 68 AN0/PAN0 (in), 75 GPT3/FEC_TXD3/PWM7/PTA3 (io), 76 GPT2/FEC_TXD2/PWM5/PTA2 (io), 77 GPT1/FEC_TXD1/PWM3/PTA1 (io), 78 GPT0/FEC_TXER/PWM1/PTA0 (io), 79 SCL/CANTX/UTXD2/PAS0 (io), 80 SDA/CANRX/URXD2/PAS1 (io)
part B pins: 32 ~{RSTI} (in), 34 ~{RSTO} (out), 36 EXTAL (in), 37 XTAL (out), 70 VRH (power), 71 VRL (power)
part C pins: 10 VDDX (power), 11 VSSX (power), 30 VSSX (power), 31 VDDX (power), 33 VDDPLL (power), 35 VSSPLL (power), 44 VSS (power), 45 VDD (power), 46 PHY_RBIAS (power), 47 PHY_VSSA (power), 48 PHY_VDDA (power), 49 PHY_VDDTX (power), 52 PHY_VSSTX (power), 55 PHY_VDDRX (power), 56 PHY_VSSRX (power), 58 VDDR (power), 69 VDDA (power), 72 VSSA (power), 73 VSS (power), 74 VDD (power)

## MCF52236AF50A
designator U?
MCF52236 ColdFire V2 Microcontroller, 32-Bit, 256KB Flash, 32KB SRAM, 50MHz, 0°C to 70°C, 80-Pin LQFP; DatasheetVersion: rev10, Mar-2011; PackageVersion: 21/09/1995; PackageReference: 917A-02; PackageDescription: 80-Pin Thin Quad Flat Pack 0.65 mm Pitch; ComponentLink1Description: Manufacturer URL; ComponentLink1URL: http://www.freescale.com/; ComponentLink2Description: Datasheet; ComponentLink2URL: http://cache.freescale.com/files/32bit/doc/data_sheet/MCF52235DS.pdf?fpsp=1&WT_TYPE=Data%20Sheets&WT_VENDOR=FREESCALE&WT_FILE_FORMAT=pdf&WT_ASSET=Documentation
footprint 917A-02_N (Thin QFP, 80-Leads, Body 14 x 14mm, Pitch 0.65mm, IPC Medium Density)
footprint 917A-02_L (Thin QFP, 80-Leads, Body 14 x 14mm, Pitch 0.65mm, IPC High Density)
footprint 917A-02_M (Thin QFP, 80-Leads, Body 14 x 14mm, Pitch 0.65mm, IPC Low Density)
part A pins: 1 TCLK/PSTCLK/CLKOUT, 2 TMS/~{BKPT} (in), 3 ~{RCON}/~{EZPCS} (in), 4 TDI/DSI (in), 5 TDO/DSO (out), 6 ~{TRST}/DSCLK (in), 7 ALLPST (out), 8 DTIN0/DTOUT0/PWM0/PTC0, 9 DTIN1/DTOUT1/PWM2/PTC1, 12 JTAG_EN (in), 13 DTIN2/DTOUT2/PWM4/PTC2, 14 DTIN3/DTOUT3/PWM6/PTC3, 15 ~{URTS1}/SYNCB/UTXD2/PUB2 (out), 16 ~{UCTS1}/SYNCA/URXD2/PUB3 (in), 17 ~{URTS0}/CANTX/FEC_RXDV/PUA2 (out), 18 ~{UCTS0}/CANRX/FEC_RXCLK/PUA3 (in), 19 SYNCB/CANRX/FEC_MDC/PAS2 (in), 20 SYNCA/CANTX/FEC_MDIO/PAS3 (in), 21 URXD0/FEC_RXD0/PUA1 (in), 22 UTXD0/FEC_CRS/PUA0 (out), 23 URXD1/FEC_TXD0/PUB1 (in), 24 UTXD1/FEC_COL/PUB0 (out), 25 QSPI_DIN/EZPD/CANRX/URXD1/PQS1 (in), 26 QSPI_DOUT/EZPQ/CANTX/UTXD1/PQS0 (out), 27 QSPI_CLK/EZPCK/SCL/URTS1/PQS2 (out), 28 QSPI_CS0/SDA/UCTS1/PQS3 (out), 29 ~{IRQ4}/PNQ4 (in), 38 TEST (in), 39 ~{IRQ1}SYNCA/PWM1/PNQ1 (in), 40 ~{IRQ7}/PNQ7 (in), 41 ~{IRQ11}/PGP3 (in), 42 COLLED/PLD4 (out), 43 DUPLED/PLD3 (out), 50 PHY_TXP (out), 51 PHY_TXN (out), 53 PHY_RXP (in), 54 PHY_RXN (in), 57 SPDLED/PLD2 (out), 59 LNKLEDPLD1 (out), 60 ACTLED/PLD0 (out), 61 AN4/PAN4 (in), 62 AN5/PAN5 (in), 63 AN6/PAN6 (in), 64 AN7/PAN7 (in), 65 AN3/PAN3 (in), 66 AN2/PAN2 (in), 67 AN1/PAN1 (in), 68 AN0/PAN0 (in), 75 GPT3/FEC_TXD3/PWM7/PTA3 (io), 76 GPT2/FEC_TXD2/PWM5/PTA2 (io), 77 GPT1/FEC_TXD1/PWM3/PTA1 (io), 78 GPT0/FEC_TXER/PWM1/PTA0 (io), 79 SCL/CANTX/UTXD2/PAS0 (io), 80 SDA/CANRX/URXD2/PAS1 (io)
part B pins: 32 ~{RSTI} (in), 34 ~{RSTO} (out), 36 EXTAL (in), 37 XTAL (out), 70 VRH (power), 71 VRL (power)
part C pins: 10 VDDX (power), 11 VSSX (power), 30 VSSX (power), 31 VDDX (power), 33 VDDPLL (power), 35 VSSPLL (power), 44 VSS (power), 45 VDD (power), 46 PHY_RBIAS (power), 47 PHY_VSSA (power), 48 PHY_VDDA (power), 49 PHY_VDDTX (power), 52 PHY_VSSTX (power), 55 PHY_VDDRX (power), 56 PHY_VSSRX (power), 58 VDDR (power), 69 VDDA (power), 72 VSSA (power), 73 VSS (power), 74 VDD (power)

## MCF52236CAF50
designator U?
MCF52236 ColdFire V2 Microcontroller, 32-Bit, 256KB Flash, 32KB SRAM, 50MHz, -40°C to 85°C, 80-Pin LQFP; DatasheetVersion: rev10, Mar-2011; PackageVersion: 21/09/1995; PackageReference: 917A-02; PackageDescription: 80-Pin Thin Quad Flat Pack 0.65 mm Pitch; ComponentLink1Description: Manufacturer URL; ComponentLink1URL: http://www.freescale.com/; ComponentLink2Description: Datasheet; ComponentLink2URL: http://cache.freescale.com/files/32bit/doc/data_sheet/MCF52235DS.pdf?fpsp=1&WT_TYPE=Data%20Sheets&WT_VENDOR=FREESCALE&WT_FILE_FORMAT=pdf&WT_ASSET=Documentation
footprint 917A-02_N (Thin QFP, 80-Leads, Body 14 x 14mm, Pitch 0.65mm, IPC Medium Density)
footprint 917A-02_L (Thin QFP, 80-Leads, Body 14 x 14mm, Pitch 0.65mm, IPC High Density)
footprint 917A-02_M (Thin QFP, 80-Leads, Body 14 x 14mm, Pitch 0.65mm, IPC Low Density)
part A pins: 1 TCLK/PSTCLK/CLKOUT, 2 TMS/~{BKPT} (in), 3 ~{RCON}/~{EZPCS} (in), 4 TDI/DSI (in), 5 TDO/DSO (out), 6 ~{TRST}/DSCLK (in), 7 ALLPST (out), 8 DTIN0/DTOUT0/PWM0/PTC0, 9 DTIN1/DTOUT1/PWM2/PTC1, 12 JTAG_EN (in), 13 DTIN2/DTOUT2/PWM4/PTC2, 14 DTIN3/DTOUT3/PWM6/PTC3, 15 ~{URTS1}/SYNCB/UTXD2/PUB2 (out), 16 ~{UCTS1}/SYNCA/URXD2/PUB3 (in), 17 ~{URTS0}/CANTX/FEC_RXDV/PUA2 (out), 18 ~{UCTS0}/CANRX/FEC_RXCLK/PUA3 (in), 19 SYNCB/CANRX/FEC_MDC/PAS2 (in), 20 SYNCA/CANTX/FEC_MDIO/PAS3 (in), 21 URXD0/FEC_RXD0/PUA1 (in), 22 UTXD0/FEC_CRS/PUA0 (out), 23 URXD1/FEC_TXD0/PUB1 (in), 24 UTXD1/FEC_COL/PUB0 (out), 25 QSPI_DIN/EZPD/CANRX/URXD1/PQS1 (in), 26 QSPI_DOUT/EZPQ/CANTX/UTXD1/PQS0 (out), 27 QSPI_CLK/EZPCK/SCL/URTS1/PQS2 (out), 28 QSPI_CS0/SDA/UCTS1/PQS3 (out), 29 ~{IRQ4}/PNQ4 (in), 38 TEST (in), 39 ~{IRQ1}SYNCA/PWM1/PNQ1 (in), 40 ~{IRQ7}/PNQ7 (in), 41 ~{IRQ11}/PGP3 (in), 42 COLLED/PLD4 (out), 43 DUPLED/PLD3 (out), 50 PHY_TXP (out), 51 PHY_TXN (out), 53 PHY_RXP (in), 54 PHY_RXN (in), 57 SPDLED/PLD2 (out), 59 LNKLEDPLD1 (out), 60 ACTLED/PLD0 (out), 61 AN4/PAN4 (in), 62 AN5/PAN5 (in), 63 AN6/PAN6 (in), 64 AN7/PAN7 (in), 65 AN3/PAN3 (in), 66 AN2/PAN2 (in), 67 AN1/PAN1 (in), 68 AN0/PAN0 (in), 75 GPT3/FEC_TXD3/PWM7/PTA3 (io), 76 GPT2/FEC_TXD2/PWM5/PTA2 (io), 77 GPT1/FEC_TXD1/PWM3/PTA1 (io), 78 GPT0/FEC_TXER/PWM1/PTA0 (io), 79 SCL/CANTX/UTXD2/PAS0 (io), 80 SDA/CANRX/URXD2/PAS1 (io)
part B pins: 32 ~{RSTI} (in), 34 ~{RSTO} (out), 36 EXTAL (in), 37 XTAL (out), 70 VRH (power), 71 VRL (power)
part C pins: 10 VDDX (power), 11 VSSX (power), 30 VSSX (power), 31 VDDX (power), 33 VDDPLL (power), 35 VSSPLL (power), 44 VSS (power), 45 VDD (power), 46 PHY_RBIAS (power), 47 PHY_VSSA (power), 48 PHY_VDDA (power), 49 PHY_VDDTX (power), 52 PHY_VSSTX (power), 55 PHY_VDDRX (power), 56 PHY_VSSRX (power), 58 VDDR (power), 69 VDDA (power), 72 VSSA (power), 73 VSS (power), 74 VDD (power)

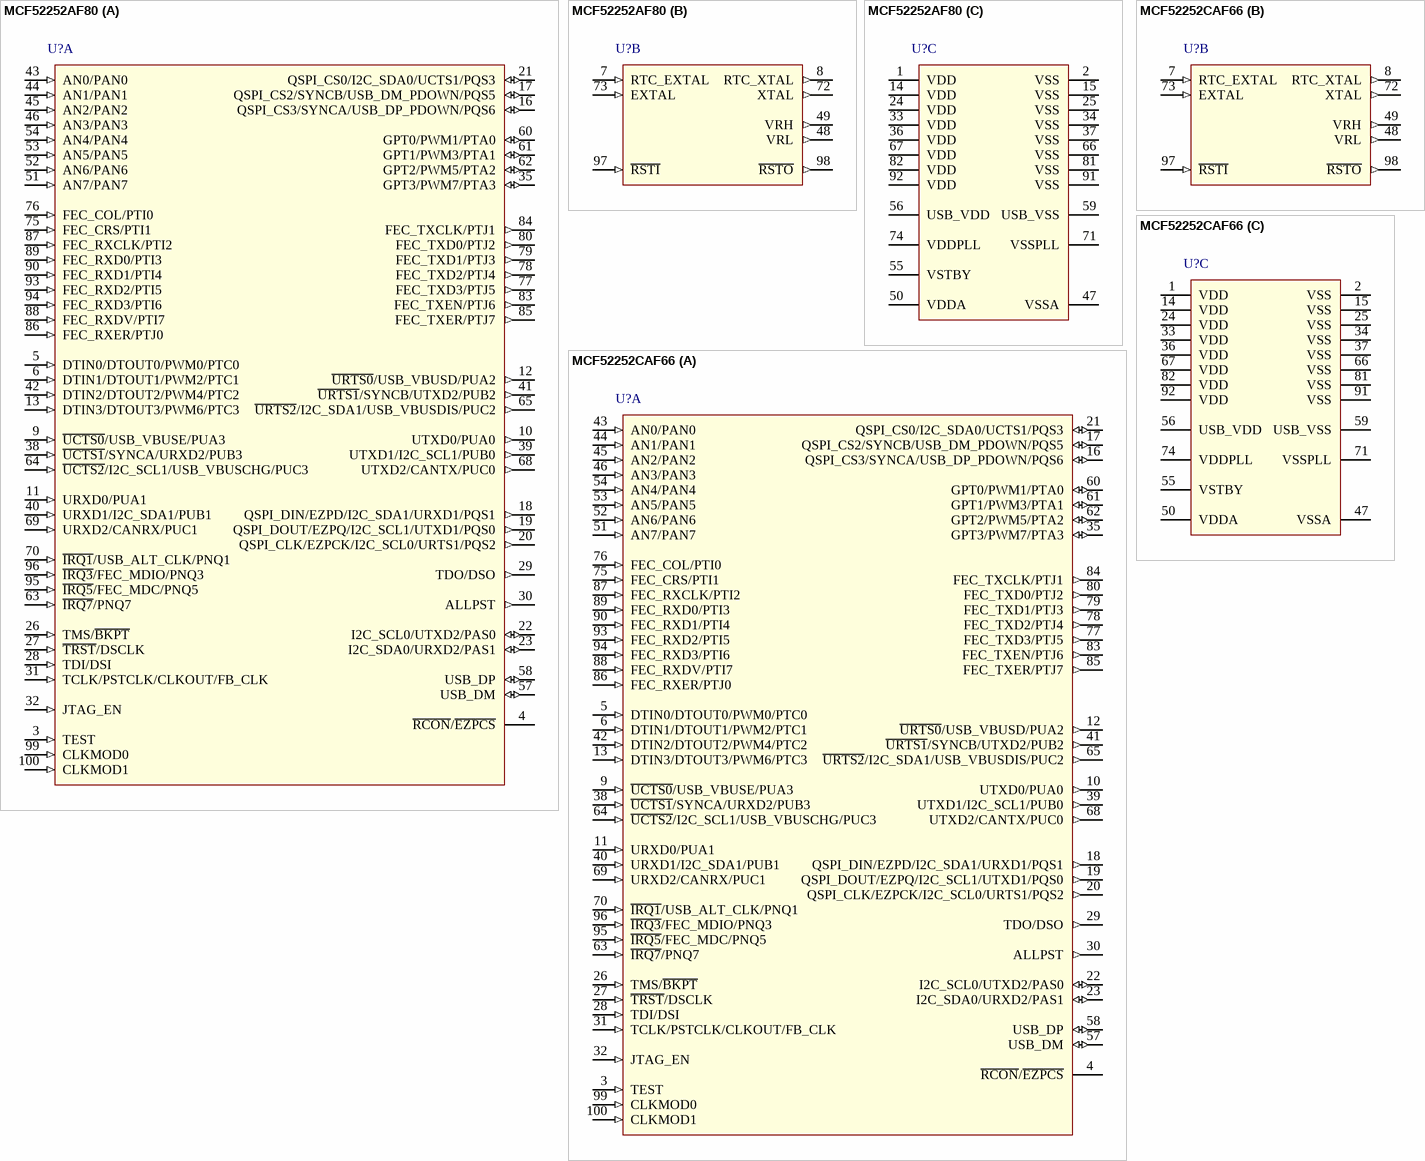
[diagram p27: symbols MCF52252AF80 to MCF52252CAF66]

## MCF52252AF80
designator U?
MCF52252 ColdFire V2 Microcontroller, 32-Bit, 256KB Flash, 32KB SRAM, 80MHz, 0°C to 70°C, 100-Pin LQFP; DatasheetVersion: rev4, Mar-2011; PackageVersion: rev3.1, Nov-2000; PackageReference: 983-02; PackageDescription: 100-Pin Shrink Quad Flat Pack 0.5 mm Pitch; Code_IPC: SQFP50P1600X1600-100; ComponentLink1Description: Manufacturer URL; ComponentLink1URL: http://www.freescale.com/; ComponentLink2Description: Datasheet; ComponentLink2URL: http://cache.freescale.com/files/32bit/doc/data_sheet/MCF52259.pdf?fpsp=1&WT_TYPE=Data%20Sheets&WT_VENDOR=FREESCALE&WT_FILE_FORMAT=pdf&WT_ASSET=Documentation
footprint 983-02_N (Shrink QFP, 100-Leads, Body 14x14mm, Pitch 0.5mm, IPC Medium Density)
footprint 983-02_L (Shrink QFP, 100-Leads, Body 14x14mm, Pitch 0.5mm, IPC High Density)
footprint 983-02_M (Shrink QFP, 100-Leads, Body 14x14mm, Pitch 0.5mm, IPC Low Density)
part A pins: 3 TEST (in), 4 ~{RCON}/~{EZPCS}, 5 DTIN0/DTOUT0/PWM0/PTC0 (in), 6 DTIN1/DTOUT1/PWM2/PTC1 (in), 9 ~{UCTS0}/USB_VBUSE/PUA3 (in), 10 UTXD0/PUA0 (out), 11 URXD0/PUA1 (in), 12 ~{URTS0}/USB_VBUSD/PUA2 (out), 13 DTIN3/DTOUT3/PWM6/PTC3 (in), 16 QSPI_CS3/SYNCA/USB_DP_PDOWN/PQS6 (io), 17 QSPI_CS2/SYNCB/USB_DM_PDOWN/PQS5 (io), 18 QSPI_DIN/EZPD/I2C_SDA1/URXD1/PQS1 (out), 19 QSPI_DOUT/EZPQ/I2C_SCL1/UTXD1/PQS0 (out), 20 QSPI_CLK/EZPCK/I2C_SCL0/URTS1/PQS2 (out), 21 QSPI_CS0/I2C_SDA0/UCTS1/PQS3 (io), 22 I2C_SCL0/UTXD2/PAS0 (io), 23 I2C_SDA0/URXD2/PAS1 (io), 26 TMS/~{BKPT} (in), 27 ~{TRST}/DSCLK (in), 28 TDI/DSI (in), 29 TDO/DSO (out), 30 ALLPST (out), 31 TCLK/PSTCLK/CLKOUT/FB_CLK (in), 32 JTAG_EN (in), 35 GPT3/PWM7/PTA3 (io), 38 ~{UCTS1}/SYNCA/URXD2/PUB3 (in), 39 UTXD1/I2C_SCL1/PUB0 (out), 40 URXD1/I2C_SDA1/PUB1 (in), 41 ~{URTS1}/SYNCB/UTXD2/PUB2 (out), 42 DTIN2/DTOUT2/PWM4/PTC2 (in), 43 AN0/PAN0 (in), 44 AN1/PAN1 (in), 45 AN2/PAN2 (in), 46 AN3/PAN3 (in), 51 AN7/PAN7 (in), 52 AN6/PAN6 (in), 53 AN5/PAN5 (in), 54 AN4/PAN4 (in), 57 USB_DM (io), 58 USB_DP (io), 60 GPT0/PWM1/PTA0 (io), 61 GPT1/PWM3/PTA1 (io), 62 GPT2/PWM5/PTA2 (io), 63 ~{IRQ7}/PNQ7 (in), 64 ~{UCTS2}/I2C_SCL1/USB_VBUSCHG/PUC3 (in), 65 ~{URTS2}/I2C_SDA1/USB_VBUSDIS/PUC2 (out), 68 UTXD2/CANTX/PUC0 (out), 69 URXD2/CANRX/PUC1 (in), 70 ~{IRQ1}/USB_ALT_CLK/PNQ1 (in), 75 FEC_CRS/PTI1 (in), 76 FEC_COL/PTI0 (in), 77 FEC_TXD3/PTJ5 (out), 78 FEC_TXD2/PTJ4 (out), 79 FEC_TXD1/PTJ3 (out), 80 FEC_TXD0/PTJ2 (out), 83 FEC_TXEN/PTJ6 (out), 84 FEC_TXCLK/PTJ1 (out), 85 FEC_TXER/PTJ7 (out), 86 FEC_RXER/PTJ0 (in), 87 FEC_RXCLK/PTI2 (in), 88 FEC_RXDV/PTI7 (in), 89 FEC_RXD0/PTI3 (in), 90 FEC_RXD1/PTI4 (in), 93 FEC_RXD2/PTI5 (in), 94 FEC_RXD3/PTI6 (in), 95 ~{IRQ5}/FEC_MDC/PNQ5 (in), 96 ~{IRQ3}/FEC_MDIO/PNQ3 (in), 99 CLKMOD0 (in), 100 CLKMOD1 (in)
part B pins: 7 RTC_EXTAL (in), 8 RTC_XTAL (out), 48 VRL (out), 49 VRH (out), 72 XTAL (out), 73 EXTAL (in), 97 ~{RSTI} (in), 98 ~{RSTO} (out)
part C pins: 1 VDD (power), 2 VSS (power), 14 VDD (power), 15 VSS (power), 24 VDD (power), 25 VSS (power), 33 VDD (power), 34 VSS (power), 36 VDD (power), 37 VSS (power), 47 VSSA (power), 50 VDDA (power), 55 VSTBY (power), 56 USB_VDD (power), 59 USB_VSS (power), 66 VSS (power), 67 VDD (power), 71 VSSPLL (power), 74 VDDPLL (power), 81 VSS (power), 82 VDD (power), 91 VSS (power), 92 VDD (power)

## MCF52252CAF66
designator U?
MCF52252 ColdFire V2 Microcontroller, 32-Bit, 256KB Flash, 32KB SRAM, 66MHz, -40°C to 85°C, 100-Pin LQFP; DatasheetVersion: rev4, Mar-2011; PackageVersion: rev3.1, Nov-2000; PackageReference: 983-02; PackageDescription: 100-Pin Shrink Quad Flat Pack 0.5 mm Pitch; Code_IPC: SQFP50P1600X1600-100; ComponentLink1Description: Manufacturer URL; ComponentLink1URL: http://www.freescale.com/; ComponentLink2Description: Datasheet; ComponentLink2URL: http://cache.freescale.com/files/32bit/doc/data_sheet/MCF52259.pdf?fpsp=1&WT_TYPE=Data%20Sheets&WT_VENDOR=FREESCALE&WT_FILE_FORMAT=pdf&WT_ASSET=Documentation
footprint 983-02_N (Shrink QFP, 100-Leads, Body 14x14mm, Pitch 0.5mm, IPC Medium Density)
footprint 983-02_L (Shrink QFP, 100-Leads, Body 14x14mm, Pitch 0.5mm, IPC High Density)
footprint 983-02_M (Shrink QFP, 100-Leads, Body 14x14mm, Pitch 0.5mm, IPC Low Density)
part A pins: 3 TEST (in), 4 ~{RCON}/~{EZPCS}, 5 DTIN0/DTOUT0/PWM0/PTC0 (in), 6 DTIN1/DTOUT1/PWM2/PTC1 (in), 9 ~{UCTS0}/USB_VBUSE/PUA3 (in), 10 UTXD0/PUA0 (out), 11 URXD0/PUA1 (in), 12 ~{URTS0}/USB_VBUSD/PUA2 (out), 13 DTIN3/DTOUT3/PWM6/PTC3 (in), 16 QSPI_CS3/SYNCA/USB_DP_PDOWN/PQS6 (io), 17 QSPI_CS2/SYNCB/USB_DM_PDOWN/PQS5 (io), 18 QSPI_DIN/EZPD/I2C_SDA1/URXD1/PQS1 (out), 19 QSPI_DOUT/EZPQ/I2C_SCL1/UTXD1/PQS0 (out), 20 QSPI_CLK/EZPCK/I2C_SCL0/URTS1/PQS2 (out), 21 QSPI_CS0/I2C_SDA0/UCTS1/PQS3 (io), 22 I2C_SCL0/UTXD2/PAS0 (io), 23 I2C_SDA0/URXD2/PAS1 (io), 26 TMS/~{BKPT} (in), 27 ~{TRST}/DSCLK (in), 28 TDI/DSI (in), 29 TDO/DSO (out), 30 ALLPST (out), 31 TCLK/PSTCLK/CLKOUT/FB_CLK (in), 32 JTAG_EN (in), 35 GPT3/PWM7/PTA3 (io), 38 ~{UCTS1}/SYNCA/URXD2/PUB3 (in), 39 UTXD1/I2C_SCL1/PUB0 (out), 40 URXD1/I2C_SDA1/PUB1 (in), 41 ~{URTS1}/SYNCB/UTXD2/PUB2 (out), 42 DTIN2/DTOUT2/PWM4/PTC2 (in), 43 AN0/PAN0 (in), 44 AN1/PAN1 (in), 45 AN2/PAN2 (in), 46 AN3/PAN3 (in), 51 AN7/PAN7 (in), 52 AN6/PAN6 (in), 53 AN5/PAN5 (in), 54 AN4/PAN4 (in), 57 USB_DM (io), 58 USB_DP (io), 60 GPT0/PWM1/PTA0 (io), 61 GPT1/PWM3/PTA1 (io), 62 GPT2/PWM5/PTA2 (io), 63 ~{IRQ7}/PNQ7 (in), 64 ~{UCTS2}/I2C_SCL1/USB_VBUSCHG/PUC3 (in), 65 ~{URTS2}/I2C_SDA1/USB_VBUSDIS/PUC2 (out), 68 UTXD2/CANTX/PUC0 (out), 69 URXD2/CANRX/PUC1 (in), 70 ~{IRQ1}/USB_ALT_CLK/PNQ1 (in), 75 FEC_CRS/PTI1 (in), 76 FEC_COL/PTI0 (in), 77 FEC_TXD3/PTJ5 (out), 78 FEC_TXD2/PTJ4 (out), 79 FEC_TXD1/PTJ3 (out), 80 FEC_TXD0/PTJ2 (out), 83 FEC_TXEN/PTJ6 (out), 84 FEC_TXCLK/PTJ1 (out), 85 FEC_TXER/PTJ7 (out), 86 FEC_RXER/PTJ0 (in), 87 FEC_RXCLK/PTI2 (in), 88 FEC_RXDV/PTI7 (in), 89 FEC_RXD0/PTI3 (in), 90 FEC_RXD1/PTI4 (in), 93 FEC_RXD2/PTI5 (in), 94 FEC_RXD3/PTI6 (in), 95 ~{IRQ5}/FEC_MDC/PNQ5 (in), 96 ~{IRQ3}/FEC_MDIO/PNQ3 (in), 99 CLKMOD0 (in), 100 CLKMOD1 (in)
part B pins: 7 RTC_EXTAL (in), 8 RTC_XTAL (out), 48 VRL (out), 49 VRH (out), 72 XTAL (out), 73 EXTAL (in), 97 ~{RSTI} (in), 98 ~{RSTO} (out)
part C pins: 1 VDD (power), 2 VSS (power), 14 VDD (power), 15 VSS (power), 24 VDD (power), 25 VSS (power), 33 VDD (power), 34 VSS (power), 36 VDD (power), 37 VSS (power), 47 VSSA (power), 50 VDDA (power), 55 VSTBY (power), 56 USB_VDD (power), 59 USB_VSS (power), 66 VSS (power), 67 VDD (power), 71 VSSPLL (power), 74 VDDPLL (power), 81 VSS (power), 82 VDD (power), 91 VSS (power), 92 VDD (power)

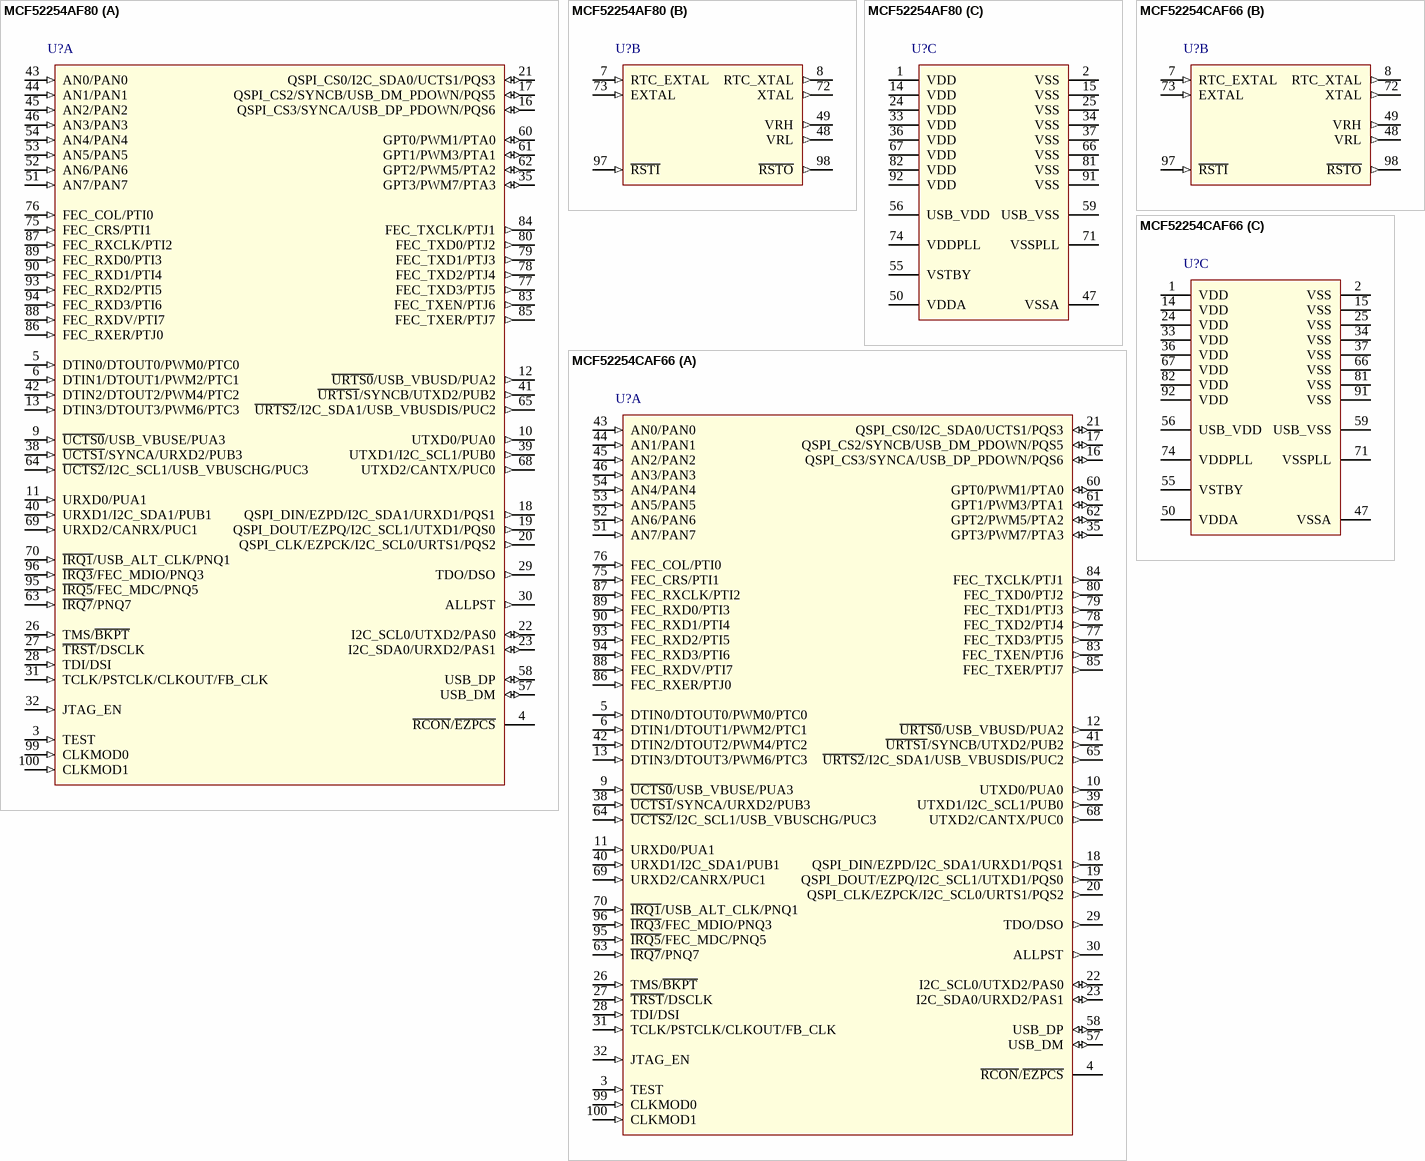
[diagram p28: symbols MCF52254AF80 to MCF52254CAF66]

## MCF52254AF80
designator U?
MCF52254 ColdFire V2 Microcontroller, 32-Bit, 512KB Flash, 64KB SRAM, 80MHz, 0°C to 70°C, 100-Pin LQFP; DatasheetVersion: rev4, Mar-2011; PackageVersion: rev3.1, Nov-2000; PackageReference: 983-02; PackageDescription: 100-Pin Shrink Quad Flat Pack 0.5 mm Pitch; Code_IPC: SQFP50P1600X1600-100; ComponentLink1Description: Manufacturer URL; ComponentLink1URL: http://www.freescale.com/; ComponentLink2Description: Datasheet; ComponentLink2URL: http://cache.freescale.com/files/32bit/doc/data_sheet/MCF52259.pdf?fpsp=1&WT_TYPE=Data%20Sheets&WT_VENDOR=FREESCALE&WT_FILE_FORMAT=pdf&WT_ASSET=Documentation
footprint 983-02_N (Shrink QFP, 100-Leads, Body 14x14mm, Pitch 0.5mm, IPC Medium Density)
footprint 983-02_L (Shrink QFP, 100-Leads, Body 14x14mm, Pitch 0.5mm, IPC High Density)
footprint 983-02_M (Shrink QFP, 100-Leads, Body 14x14mm, Pitch 0.5mm, IPC Low Density)
part A pins: 3 TEST (in), 4 ~{RCON}/~{EZPCS}, 5 DTIN0/DTOUT0/PWM0/PTC0 (in), 6 DTIN1/DTOUT1/PWM2/PTC1 (in), 9 ~{UCTS0}/USB_VBUSE/PUA3 (in), 10 UTXD0/PUA0 (out), 11 URXD0/PUA1 (in), 12 ~{URTS0}/USB_VBUSD/PUA2 (out), 13 DTIN3/DTOUT3/PWM6/PTC3 (in), 16 QSPI_CS3/SYNCA/USB_DP_PDOWN/PQS6 (io), 17 QSPI_CS2/SYNCB/USB_DM_PDOWN/PQS5 (io), 18 QSPI_DIN/EZPD/I2C_SDA1/URXD1/PQS1 (out), 19 QSPI_DOUT/EZPQ/I2C_SCL1/UTXD1/PQS0 (out), 20 QSPI_CLK/EZPCK/I2C_SCL0/URTS1/PQS2 (out), 21 QSPI_CS0/I2C_SDA0/UCTS1/PQS3 (io), 22 I2C_SCL0/UTXD2/PAS0 (io), 23 I2C_SDA0/URXD2/PAS1 (io), 26 TMS/~{BKPT} (in), 27 ~{TRST}/DSCLK (in), 28 TDI/DSI (in), 29 TDO/DSO (out), 30 ALLPST (out), 31 TCLK/PSTCLK/CLKOUT/FB_CLK (in), 32 JTAG_EN (in), 35 GPT3/PWM7/PTA3 (io), 38 ~{UCTS1}/SYNCA/URXD2/PUB3 (in), 39 UTXD1/I2C_SCL1/PUB0 (out), 40 URXD1/I2C_SDA1/PUB1 (in), 41 ~{URTS1}/SYNCB/UTXD2/PUB2 (out), 42 DTIN2/DTOUT2/PWM4/PTC2 (in), 43 AN0/PAN0 (in), 44 AN1/PAN1 (in), 45 AN2/PAN2 (in), 46 AN3/PAN3 (in), 51 AN7/PAN7 (in), 52 AN6/PAN6 (in), 53 AN5/PAN5 (in), 54 AN4/PAN4 (in), 57 USB_DM (io), 58 USB_DP (io), 60 GPT0/PWM1/PTA0 (io), 61 GPT1/PWM3/PTA1 (io), 62 GPT2/PWM5/PTA2 (io), 63 ~{IRQ7}/PNQ7 (in), 64 ~{UCTS2}/I2C_SCL1/USB_VBUSCHG/PUC3 (in), 65 ~{URTS2}/I2C_SDA1/USB_VBUSDIS/PUC2 (out), 68 UTXD2/CANTX/PUC0 (out), 69 URXD2/CANRX/PUC1 (in), 70 ~{IRQ1}/USB_ALT_CLK/PNQ1 (in), 75 FEC_CRS/PTI1 (in), 76 FEC_COL/PTI0 (in), 77 FEC_TXD3/PTJ5 (out), 78 FEC_TXD2/PTJ4 (out), 79 FEC_TXD1/PTJ3 (out), 80 FEC_TXD0/PTJ2 (out), 83 FEC_TXEN/PTJ6 (out), 84 FEC_TXCLK/PTJ1 (out), 85 FEC_TXER/PTJ7 (out), 86 FEC_RXER/PTJ0 (in), 87 FEC_RXCLK/PTI2 (in), 88 FEC_RXDV/PTI7 (in), 89 FEC_RXD0/PTI3 (in), 90 FEC_RXD1/PTI4 (in), 93 FEC_RXD2/PTI5 (in), 94 FEC_RXD3/PTI6 (in), 95 ~{IRQ5}/FEC_MDC/PNQ5 (in), 96 ~{IRQ3}/FEC_MDIO/PNQ3 (in), 99 CLKMOD0 (in), 100 CLKMOD1 (in)
part B pins: 7 RTC_EXTAL (in), 8 RTC_XTAL (out), 48 VRL (out), 49 VRH (out), 72 XTAL (out), 73 EXTAL (in), 97 ~{RSTI} (in), 98 ~{RSTO} (out)
part C pins: 1 VDD (power), 2 VSS (power), 14 VDD (power), 15 VSS (power), 24 VDD (power), 25 VSS (power), 33 VDD (power), 34 VSS (power), 36 VDD (power), 37 VSS (power), 47 VSSA (power), 50 VDDA (power), 55 VSTBY (power), 56 USB_VDD (power), 59 USB_VSS (power), 66 VSS (power), 67 VDD (power), 71 VSSPLL (power), 74 VDDPLL (power), 81 VSS (power), 82 VDD (power), 91 VSS (power), 92 VDD (power)

## MCF52254CAF66
designator U?
MCF52254 ColdFire V2 Microcontroller, 32-Bit, 64KB SRAM, 66MHz, -40°C to 85°C, 100-Pin LQFP; DatasheetVersion: rev4, Mar-2011; PackageVersion: rev3.1, Nov-2000; PackageReference: 983-02; PackageDescription: 100-Pin Shrink Quad Flat Pack 0.5 mm Pitch; Code_IPC: SQFP50P1600X1600-100; ComponentLink1Description: Manufacturer URL; ComponentLink1URL: http://www.freescale.com/; ComponentLink2Description: Datasheet; ComponentLink2URL: http://cache.freescale.com/files/32bit/doc/data_sheet/MCF52259.pdf?fpsp=1&WT_TYPE=Data%20Sheets&WT_VENDOR=FREESCALE&WT_FILE_FORMAT=pdf&WT_ASSET=Documentation
footprint 983-02_N (Shrink QFP, 100-Leads, Body 14x14mm, Pitch 0.5mm, IPC Medium Density)
footprint 983-02_L (Shrink QFP, 100-Leads, Body 14x14mm, Pitch 0.5mm, IPC High Density)
footprint 983-02_M (Shrink QFP, 100-Leads, Body 14x14mm, Pitch 0.5mm, IPC Low Density)
part A pins: 3 TEST (in), 4 ~{RCON}/~{EZPCS}, 5 DTIN0/DTOUT0/PWM0/PTC0 (in), 6 DTIN1/DTOUT1/PWM2/PTC1 (in), 9 ~{UCTS0}/USB_VBUSE/PUA3 (in), 10 UTXD0/PUA0 (out), 11 URXD0/PUA1 (in), 12 ~{URTS0}/USB_VBUSD/PUA2 (out), 13 DTIN3/DTOUT3/PWM6/PTC3 (in), 16 QSPI_CS3/SYNCA/USB_DP_PDOWN/PQS6 (io), 17 QSPI_CS2/SYNCB/USB_DM_PDOWN/PQS5 (io), 18 QSPI_DIN/EZPD/I2C_SDA1/URXD1/PQS1 (out), 19 QSPI_DOUT/EZPQ/I2C_SCL1/UTXD1/PQS0 (out), 20 QSPI_CLK/EZPCK/I2C_SCL0/URTS1/PQS2 (out), 21 QSPI_CS0/I2C_SDA0/UCTS1/PQS3 (io), 22 I2C_SCL0/UTXD2/PAS0 (io), 23 I2C_SDA0/URXD2/PAS1 (io), 26 TMS/~{BKPT} (in), 27 ~{TRST}/DSCLK (in), 28 TDI/DSI (in), 29 TDO/DSO (out), 30 ALLPST (out), 31 TCLK/PSTCLK/CLKOUT/FB_CLK (in), 32 JTAG_EN (in), 35 GPT3/PWM7/PTA3 (io), 38 ~{UCTS1}/SYNCA/URXD2/PUB3 (in), 39 UTXD1/I2C_SCL1/PUB0 (out), 40 URXD1/I2C_SDA1/PUB1 (in), 41 ~{URTS1}/SYNCB/UTXD2/PUB2 (out), 42 DTIN2/DTOUT2/PWM4/PTC2 (in), 43 AN0/PAN0 (in), 44 AN1/PAN1 (in), 45 AN2/PAN2 (in), 46 AN3/PAN3 (in), 51 AN7/PAN7 (in), 52 AN6/PAN6 (in), 53 AN5/PAN5 (in), 54 AN4/PAN4 (in), 57 USB_DM (io), 58 USB_DP (io), 60 GPT0/PWM1/PTA0 (io), 61 GPT1/PWM3/PTA1 (io), 62 GPT2/PWM5/PTA2 (io), 63 ~{IRQ7}/PNQ7 (in), 64 ~{UCTS2}/I2C_SCL1/USB_VBUSCHG/PUC3 (in), 65 ~{URTS2}/I2C_SDA1/USB_VBUSDIS/PUC2 (out), 68 UTXD2/CANTX/PUC0 (out), 69 URXD2/CANRX/PUC1 (in), 70 ~{IRQ1}/USB_ALT_CLK/PNQ1 (in), 75 FEC_CRS/PTI1 (in), 76 FEC_COL/PTI0 (in), 77 FEC_TXD3/PTJ5 (out), 78 FEC_TXD2/PTJ4 (out), 79 FEC_TXD1/PTJ3 (out), 80 FEC_TXD0/PTJ2 (out), 83 FEC_TXEN/PTJ6 (out), 84 FEC_TXCLK/PTJ1 (out), 85 FEC_TXER/PTJ7 (out), 86 FEC_RXER/PTJ0 (in), 87 FEC_RXCLK/PTI2 (in), 88 FEC_RXDV/PTI7 (in), 89 FEC_RXD0/PTI3 (in), 90 FEC_RXD1/PTI4 (in), 93 FEC_RXD2/PTI5 (in), 94 FEC_RXD3/PTI6 (in), 95 ~{IRQ5}/FEC_MDC/PNQ5 (in), 96 ~{IRQ3}/FEC_MDIO/PNQ3 (in), 99 CLKMOD0 (in), 100 CLKMOD1 (in)
part B pins: 7 RTC_EXTAL (in), 8 RTC_XTAL (out), 48 VRL (out), 49 VRH (out), 72 XTAL (out), 73 EXTAL (in), 97 ~{RSTI} (in), 98 ~{RSTO} (out)
part C pins: 1 VDD (power), 2 VSS (power), 14 VDD (power), 15 VSS (power), 24 VDD (power), 25 VSS (power), 33 VDD (power), 34 VSS (power), 36 VDD (power), 37 VSS (power), 47 VSSA (power), 50 VDDA (power), 55 VSTBY (power), 56 USB_VDD (power), 59 USB_VSS (power), 66 VSS (power), 67 VDD (power), 71 VSSPLL (power), 74 VDDPLL (power), 81 VSS (power), 82 VDD (power), 91 VSS (power), 92 VDD (power)

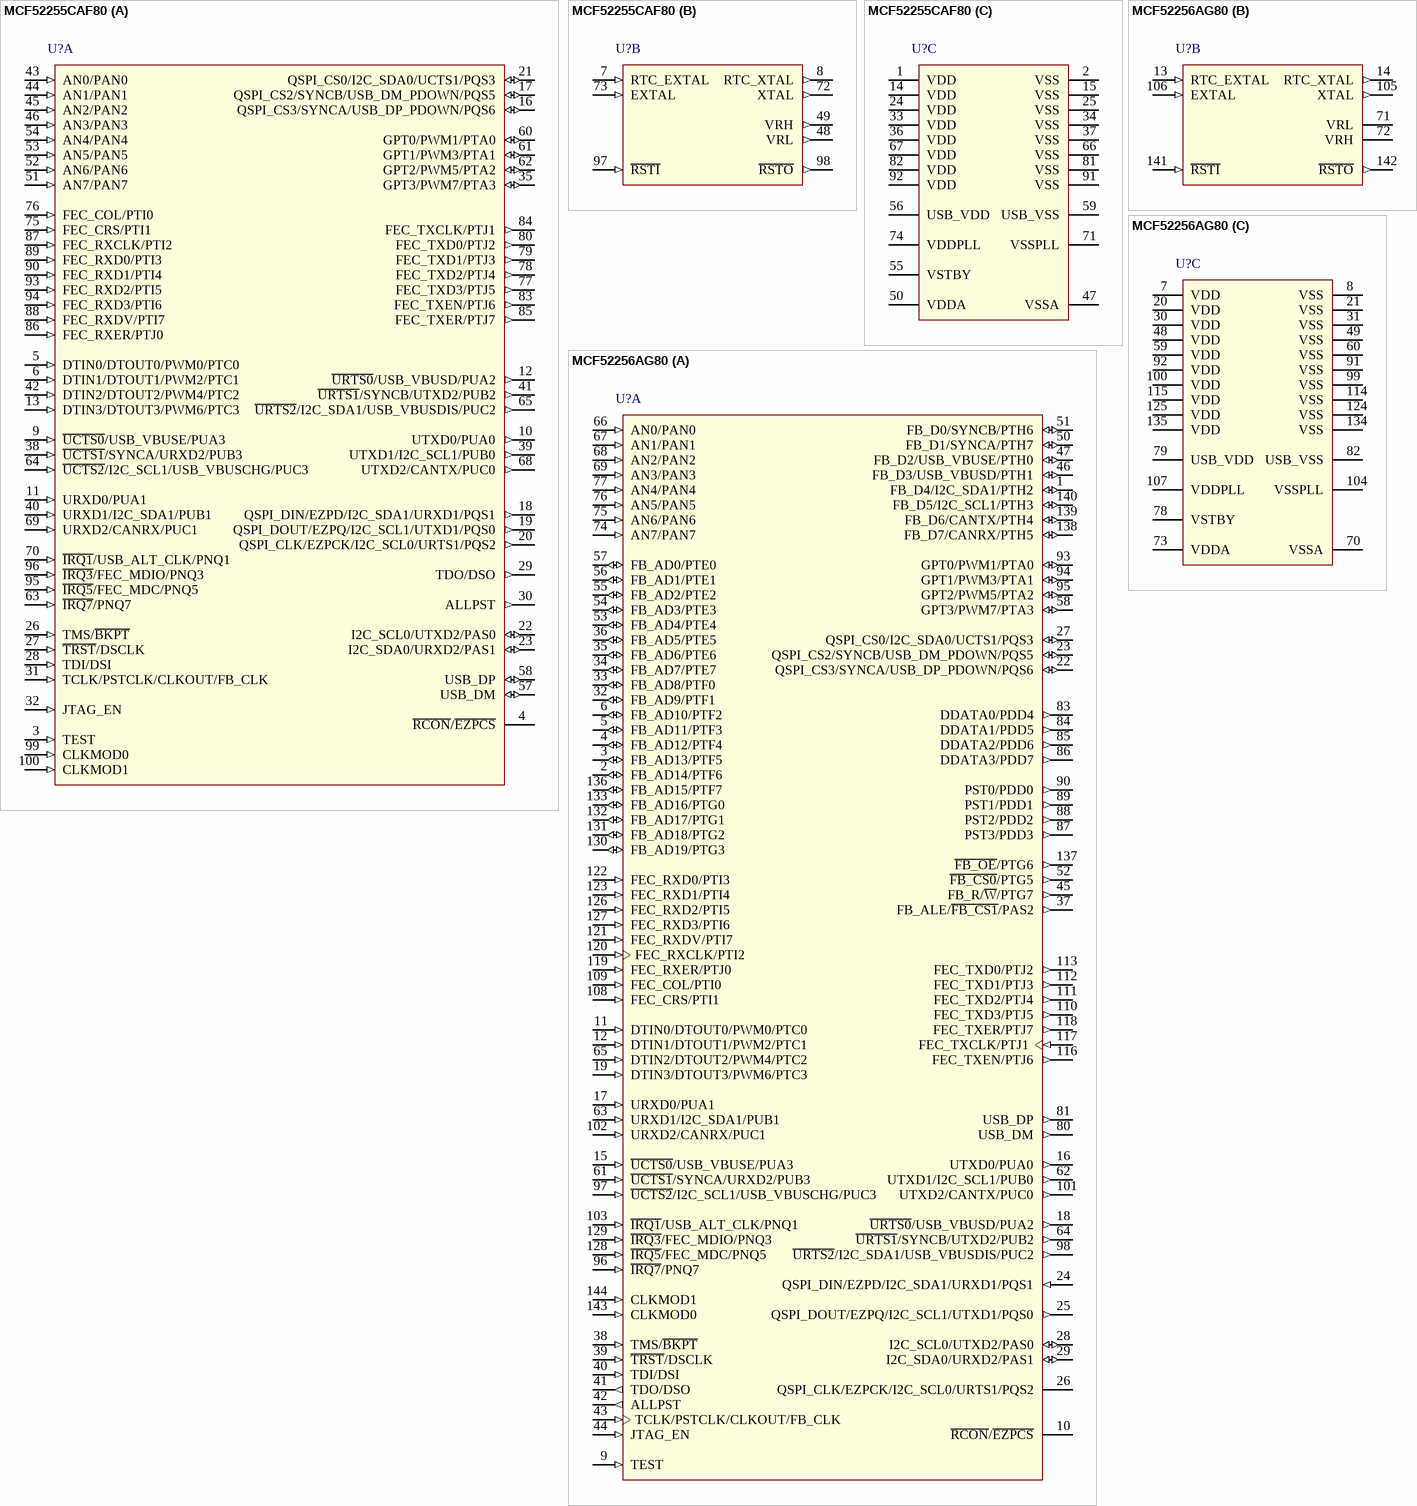
[diagram p29: symbols MCF52255CAF80 to MCF52256AG80]

## MCF52255CAF80
designator U?
MCF52255 ColdFire V2 Microcontroller, 32-Bit, 512KB Flash, 64KB SRAM, 80MHz, -40°C to 85°C, 100-Pin LQFP; DatasheetVersion: rev4, Mar-2011; PackageVersion: rev3.1, Nov-2000; PackageReference: 983-02; PackageDescription: 100-Pin Shrink Quad Flat Pack 0.5 mm Pitch; Code_IPC: SQFP50P1600X1600-100; ComponentLink1Description: Manufacturer URL; ComponentLink1URL: http://www.freescale.com/; ComponentLink2Description: Datasheet; ComponentLink2URL: http://cache.freescale.com/files/32bit/doc/data_sheet/MCF52259.pdf?fpsp=1&WT_TYPE=Data%20Sheets&WT_VENDOR=FREESCALE&WT_FILE_FORMAT=pdf&WT_ASSET=Documentation
footprint 983-02_N (Shrink QFP, 100-Leads, Body 14x14mm, Pitch 0.5mm, IPC Medium Density)
footprint 983-02_L (Shrink QFP, 100-Leads, Body 14x14mm, Pitch 0.5mm, IPC High Density)
footprint 983-02_M (Shrink QFP, 100-Leads, Body 14x14mm, Pitch 0.5mm, IPC Low Density)
part A pins: 3 TEST (in), 4 ~{RCON}/~{EZPCS}, 5 DTIN0/DTOUT0/PWM0/PTC0 (in), 6 DTIN1/DTOUT1/PWM2/PTC1 (in), 9 ~{UCTS0}/USB_VBUSE/PUA3 (in), 10 UTXD0/PUA0 (out), 11 URXD0/PUA1 (in), 12 ~{URTS0}/USB_VBUSD/PUA2 (out), 13 DTIN3/DTOUT3/PWM6/PTC3 (in), 16 QSPI_CS3/SYNCA/USB_DP_PDOWN/PQS6 (io), 17 QSPI_CS2/SYNCB/USB_DM_PDOWN/PQS5 (io), 18 QSPI_DIN/EZPD/I2C_SDA1/URXD1/PQS1 (out), 19 QSPI_DOUT/EZPQ/I2C_SCL1/UTXD1/PQS0 (out), 20 QSPI_CLK/EZPCK/I2C_SCL0/URTS1/PQS2 (out), 21 QSPI_CS0/I2C_SDA0/UCTS1/PQS3 (io), 22 I2C_SCL0/UTXD2/PAS0 (io), 23 I2C_SDA0/URXD2/PAS1 (io), 26 TMS/~{BKPT} (in), 27 ~{TRST}/DSCLK (in), 28 TDI/DSI (in), 29 TDO/DSO (out), 30 ALLPST (out), 31 TCLK/PSTCLK/CLKOUT/FB_CLK (in), 32 JTAG_EN (in), 35 GPT3/PWM7/PTA3 (io), 38 ~{UCTS1}/SYNCA/URXD2/PUB3 (in), 39 UTXD1/I2C_SCL1/PUB0 (out), 40 URXD1/I2C_SDA1/PUB1 (in), 41 ~{URTS1}/SYNCB/UTXD2/PUB2 (out), 42 DTIN2/DTOUT2/PWM4/PTC2 (in), 43 AN0/PAN0 (in), 44 AN1/PAN1 (in), 45 AN2/PAN2 (in), 46 AN3/PAN3 (in), 51 AN7/PAN7 (in), 52 AN6/PAN6 (in), 53 AN5/PAN5 (in), 54 AN4/PAN4 (in), 57 USB_DM (io), 58 USB_DP (io), 60 GPT0/PWM1/PTA0 (io), 61 GPT1/PWM3/PTA1 (io), 62 GPT2/PWM5/PTA2 (io), 63 ~{IRQ7}/PNQ7 (in), 64 ~{UCTS2}/I2C_SCL1/USB_VBUSCHG/PUC3 (in), 65 ~{URTS2}/I2C_SDA1/USB_VBUSDIS/PUC2 (out), 68 UTXD2/CANTX/PUC0 (out), 69 URXD2/CANRX/PUC1 (in), 70 ~{IRQ1}/USB_ALT_CLK/PNQ1 (in), 75 FEC_CRS/PTI1 (in), 76 FEC_COL/PTI0 (in), 77 FEC_TXD3/PTJ5 (out), 78 FEC_TXD2/PTJ4 (out), 79 FEC_TXD1/PTJ3 (out), 80 FEC_TXD0/PTJ2 (out), 83 FEC_TXEN/PTJ6 (out), 84 FEC_TXCLK/PTJ1 (out), 85 FEC_TXER/PTJ7 (out), 86 FEC_RXER/PTJ0 (in), 87 FEC_RXCLK/PTI2 (in), 88 FEC_RXDV/PTI7 (in), 89 FEC_RXD0/PTI3 (in), 90 FEC_RXD1/PTI4 (in), 93 FEC_RXD2/PTI5 (in), 94 FEC_RXD3/PTI6 (in), 95 ~{IRQ5}/FEC_MDC/PNQ5 (in), 96 ~{IRQ3}/FEC_MDIO/PNQ3 (in), 99 CLKMOD0 (in), 100 CLKMOD1 (in)
part B pins: 7 RTC_EXTAL (in), 8 RTC_XTAL (out), 48 VRL (out), 49 VRH (out), 72 XTAL (out), 73 EXTAL (in), 97 ~{RSTI} (in), 98 ~{RSTO} (out)
part C pins: 1 VDD (power), 2 VSS (power), 14 VDD (power), 15 VSS (power), 24 VDD (power), 25 VSS (power), 33 VDD (power), 34 VSS (power), 36 VDD (power), 37 VSS (power), 47 VSSA (power), 50 VDDA (power), 55 VSTBY (power), 56 USB_VDD (power), 59 USB_VSS (power), 66 VSS (power), 67 VDD (power), 71 VSSPLL (power), 74 VDDPLL (power), 81 VSS (power), 82 VDD (power), 91 VSS (power), 92 VDD (power)

## MCF52256AG80
designator U?
MCF52256 ColdFire V2 Microcontroller, 32-Bit, 256KB Flash, 32KB SRAM, 80MHz, 0°C to 70°C, 144-Pin LQFP; DatasheetVersion: rev4, Mar-2011; PackageVersion: revG, Nov-2009; PackageReference: 918-03; PackageDescription: 144-Pin Thin Quad Flat Pack, 20 x 20 mm Body, 0.5 mm Pitch; ComponentLink1Description: Manufacturer URL; ComponentLink1URL: http://www.freescale.com/; ComponentLink2Description: Datasheet; ComponentLink2URL: http://cache.freescale.com/files/32bit/doc/data_sheet/MCF52259.pdf?fpsp=1&WT_TYPE=Data%20Sheets&WT_VENDOR=FREESCALE&WT_FILE_FORMAT=pdf&WT_ASSET=Documentation
footprint 918-03_N (Thin QFP, 144-Leads, Body 20x20mm, Pitch 0.5mm, IPC Medium Density)
footprint 918-03_L (Thin QFP, 144-Leads, Body 20x20mm, Pitch 0.5mm, IPC High Density)
footprint 918-03_M (Thin QFP, 144-Leads, Body 20x20mm, Pitch 0.5mm, IPC Low Density)
part A pins: 1 FB_D4/I2C_SDA1/PTH2 (io), 2 FB_AD14/PTF6 (io), 3 FB_AD13/PTF5 (io), 4 FB_AD12/PTF4 (io), 5 FB_AD11/PTF3 (io), 6 FB_AD10/PTF2 (io), 9 TEST (in), 10 ~{RCON}/~{EZPCS}, 11 DTIN0/DTOUT0/PWM0/PTC0 (in), 12 DTIN1/DTOUT1/PWM2/PTC1 (in), 15 ~{UCTS0}/USB_VBUSE/PUA3 (in), 16 UTXD0/PUA0 (out), 17 URXD0/PUA1 (in), 18 ~{URTS0}/USB_VBUSD/PUA2 (out), 19 DTIN3/DTOUT3/PWM6/PTC3 (in), 22 QSPI_CS3/SYNCA/USB_DP_PDOWN/PQS6 (io), 23 QSPI_CS2/SYNCB/USB_DM_PDOWN/PQS5 (io), 24 QSPI_DIN/EZPD/I2C_SDA1/URXD1/PQS1 (in), 25 QSPI_DOUT/EZPQ/I2C_SCL1/UTXD1/PQS0 (out), 26 QSPI_CLK/EZPCK/I2C_SCL0/URTS1/PQS2, 27 QSPI_CS0/I2C_SDA0/UCTS1/PQS3 (io), 28 I2C_SCL0/UTXD2/PAS0 (io), 29 I2C_SDA0/URXD2/PAS1 (io), 32 FB_AD9/PTF1 (io), 33 FB_AD8/PTF0 (io), 34 FB_AD7/PTE7 (io), 35 FB_AD6/PTE6 (io), 36 FB_AD5/PTE5 (io), 37 FB_ALE/~{FB_CS1}/PAS2 (out), 38 TMS/~{BKPT} (in), 39 ~{TRST}/DSCLK (in), 40 TDI/DSI (in), 41 TDO/DSO (out), 42 ALLPST (out), 43 TCLK/PSTCLK/CLKOUT/FB_CLK (in), 44 JTAG_EN (in), 45 FB_R/~{W}/PTG7 (out), 46 FB_D3/USB_VBUSD/PTH1 (io), 47 FB_D2/USB_VBUSE/PTH0 (io), 50 FB_D1/SYNCA/PTH7 (io), 51 FB_D0/SYNCB/PTH6 (io), 52 ~{FB_CS0}/PTG5 (out), 53 FB_AD4/PTE4 (io), 54 FB_AD3/PTE3 (io), 55 FB_AD2/PTE2 (io), 56 FB_AD1/PTE1 (io), 57 FB_AD0/PTE0 (io), 58 GPT3/PWM7/PTA3 (io), 61 ~{UCTS1}/SYNCA/URXD2/PUB3 (in), 62 UTXD1/I2C_SCL1/PUB0 (out), 63 URXD1/I2C_SDA1/PUB1 (in), 64 ~{URTS1}/SYNCB/UTXD2/PUB2 (out), 65 DTIN2/DTOUT2/PWM4/PTC2 (in), 66 AN0/PAN0 (in), 67 AN1/PAN1 (in), 68 AN2/PAN2 (in), 69 AN3/PAN3 (in), 74 AN7/PAN7 (in), 75 AN6/PAN6 (in), 76 AN5/PAN5 (in), 77 AN4/PAN4 (in), 80 USB_DM (out), 81 USB_DP (out), 83 DDATA0/PDD4 (out), 84 DDATA1/PDD5 (out), 85 DDATA2/PDD6 (out), 86 DDATA3/PDD7 (out), 87 PST3/PDD3 (out), 88 PST2/PDD2 (out), 89 PST1/PDD1 (out), 90 PST0/PDD0 (out), 93 GPT0/PWM1/PTA0 (io), 94 GPT1/PWM3/PTA1 (io), 95 GPT2/PWM5/PTA2 (io), 96 ~{IRQ7}/PNQ7 (in), 97 ~{UCTS2}/I2C_SCL1/USB_VBUSCHG/PUC3 (in), 98 ~{URTS2}/I2C_SDA1/USB_VBUSDIS/PUC2 (out), 101 UTXD2/CANTX/PUC0 (out), 102 URXD2/CANRX/PUC1 (in), 103 ~{IRQ1}/USB_ALT_CLK/PNQ1 (in), 108 FEC_CRS/PTI1 (in), 109 FEC_COL/PTI0 (in), 110 FEC_TXD3/PTJ5 (out), 111 FEC_TXD2/PTJ4 (out), 112 FEC_TXD1/PTJ3 (out), 113 FEC_TXD0/PTJ2 (out), 116 FEC_TXEN/PTJ6 (out), 117 FEC_TXCLK/PTJ1 (in), 118 FEC_TXER/PTJ7 (out), 119 FEC_RXER/PTJ0 (in), 120 FEC_RXCLK/PTI2 (in), 121 FEC_RXDV/PTI7 (in), 122 FEC_RXD0/PTI3 (in), 123 FEC_RXD1/PTI4 (in), 126 FEC_RXD2/PTI5 (in), 127 FEC_RXD3/PTI6 (in), 128 ~{IRQ5}/FEC_MDC/PNQ5 (in), 129 ~{IRQ3}/FEC_MDIO/PNQ3 (in), 130 FB_AD19/PTG3 (io), 131 FB_AD18/PTG2 (io), 132 FB_AD17/PTG1 (io), 133 FB_AD16/PTG0 (io), 136 FB_AD15/PTF7 (io), 137 ~{FB_OE}/PTG6 (out), 138 FB_D7/CANRX/PTH5 (io), 139 FB_D6/CANTX/PTH4 (io), 140 FB_D5/I2C_SCL1/PTH3 (io), 143 CLKMOD0 (in), 144 CLKMOD1 (in)
part B pins: 13 RTC_EXTAL (in), 14 RTC_XTAL (out), 71 VRL (power), 72 VRH (power), 105 XTAL (out), 106 EXTAL (in), 141 ~{RSTI} (in), 142 ~{RSTO} (out)
part C pins: 7 VDD (power), 8 VSS (power), 20 VDD (power), 21 VSS (power), 30 VDD (power), 31 VSS (power), 48 VDD (power), 49 VSS (power), 59 VDD (power), 60 VSS (power), 70 VSSA (power), 73 VDDA (power), 78 VSTBY (power), 79 USB_VDD (power), 82 USB_VSS (power), 91 VSS (power), 92 VDD (power), 99 VSS (power), 100 VDD (power), 104 VSSPLL (power), 107 VDDPLL (power), 114 VSS (power), 115 VDD (power), 124 VSS (power), 125 VDD (power), 134 VSS (power), 135 VDD (power)

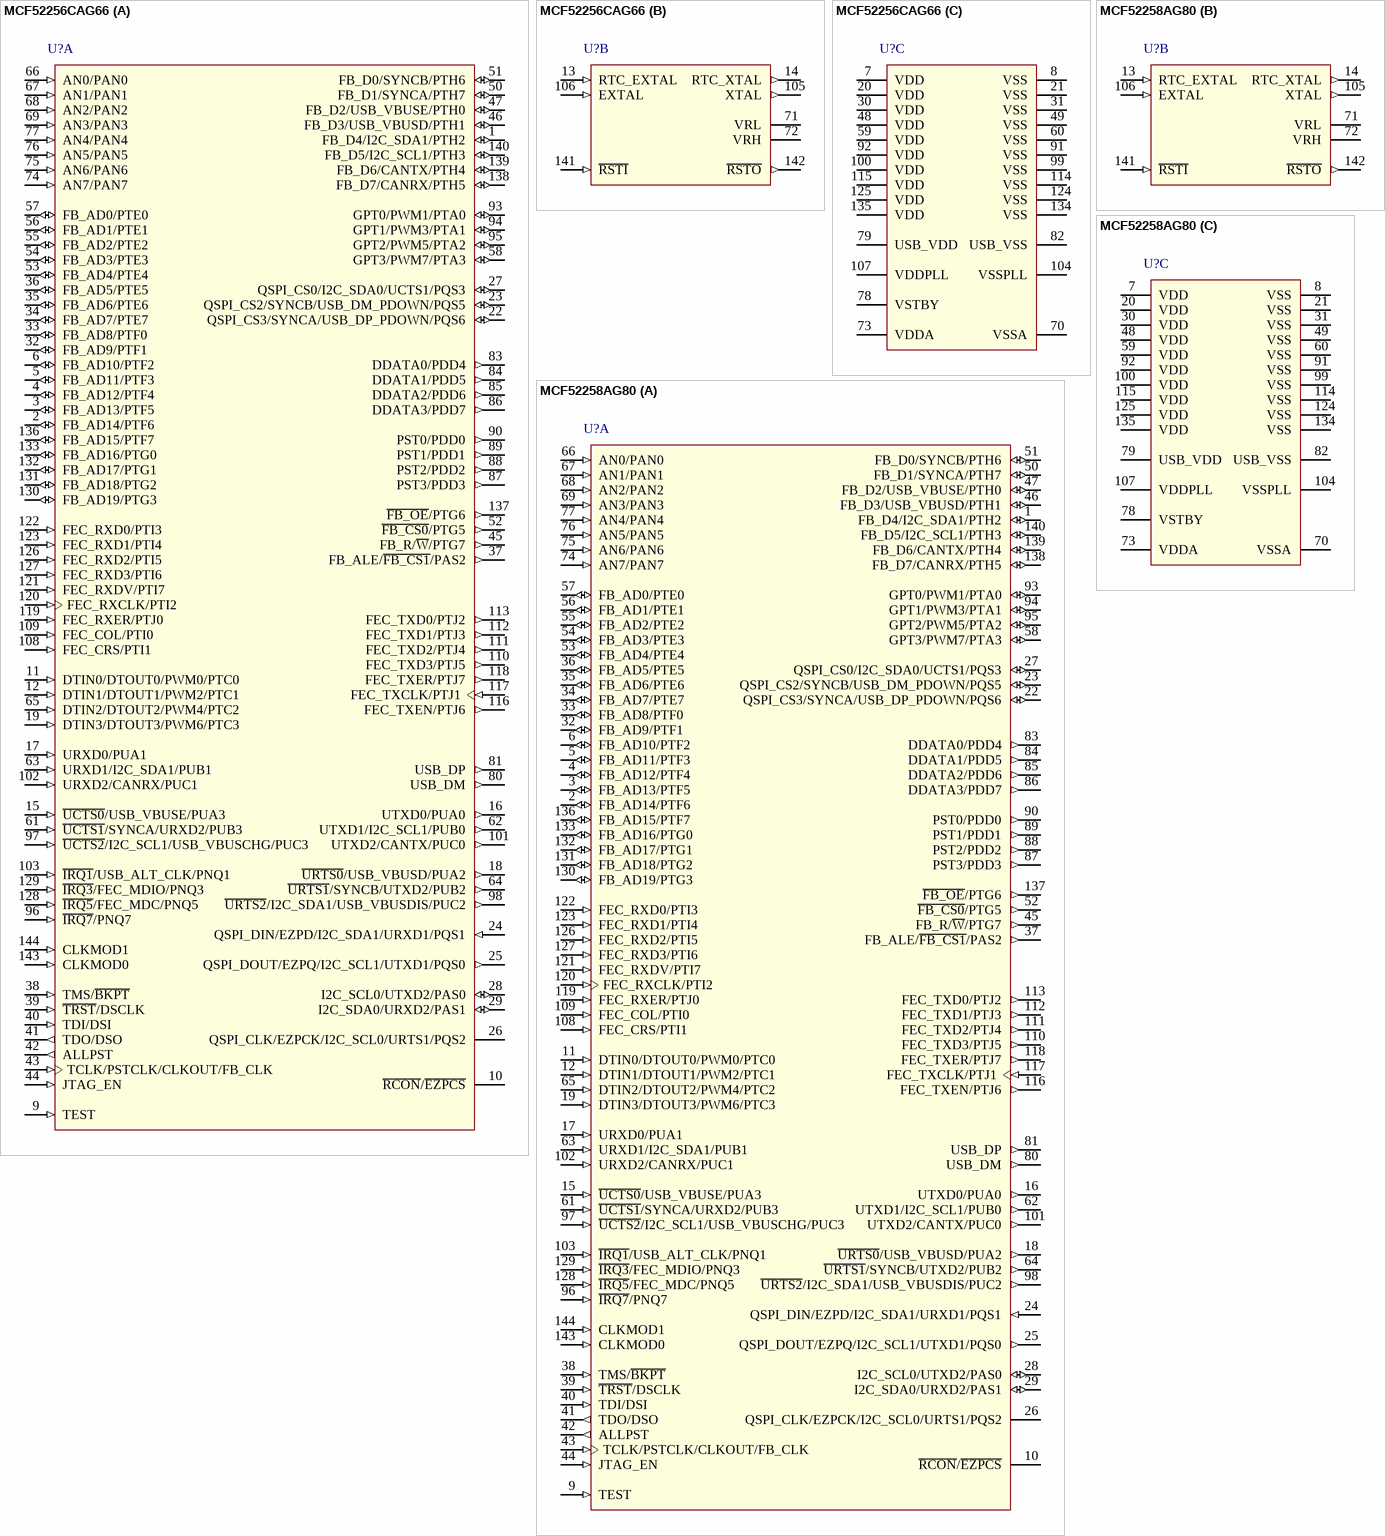
[diagram p30: symbols MCF52256CAG66 to MCF52258AG80]